# Altium schematic symbol library MCU_Texas.SchLib: 21 symbols
Pins are listed as number, name and electrical type; pins without a type are passive.

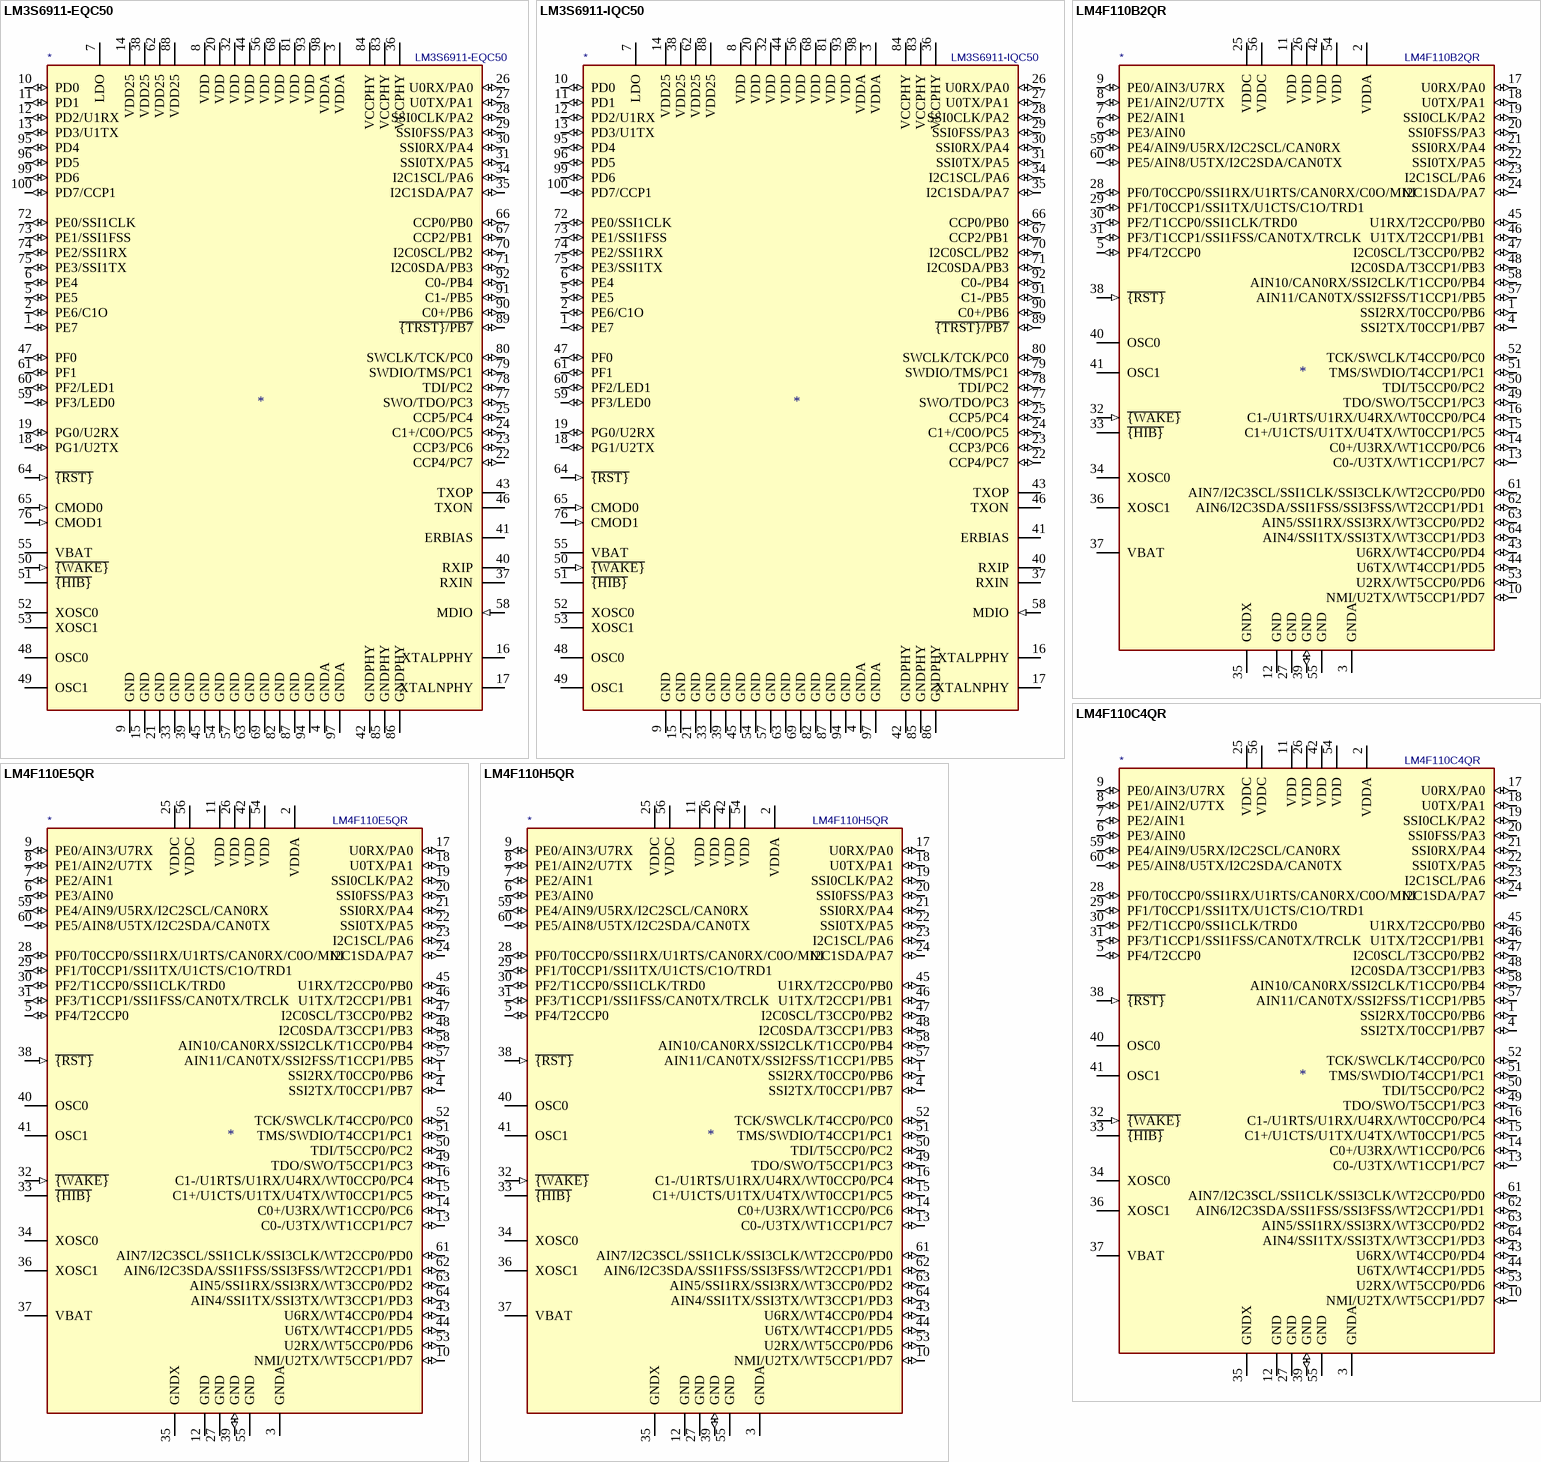
[diagram p0: symbols LM3S6911-EQC50 to LM4F110H5QR]

## LM3S6911-EQC50
designator *  value LM3S6911-EQC50
ki_keywords: MCU ARM M3 Stellaris PHY ETH NRND; ki_description: Ti Stellaris ARM-M3 MCU Ethernet PHY, LQFP100; ki_fp_filters: LQFP*14x14mm*P0.5mm*; Footprint: Package_QFP:LQFP-100_14x14mm_P0.5mm; Supplier: http://www.ti.com/lit/ds/symlink/lm3s6911.pdf
footprint LQFP-100_14x14mm_P0.5mm
pins: 1 PE7 (io), 2 PE6/C1O (io), 3 VDDA (power), 4 GNDA (power), 5 PE5 (io), 6 PE4 (io), 7 LDO, 8 VDD (power), 9 GND (power), 10 PD0 (io), 11 PD1 (io), 12 PD2/U1RX (io), 13 PD3/U1TX (io), 14 VDD25 (power), 15 GND (power), 16 XTALPPHY, 17 XTALNPHY, 18 PG1/U2TX (io), 19 PG0/U2RX (io), 20 VDD (power), 21 GND (power), 22 CCP4/PC7 (io), 23 CCP3/PC6 (io), 24 C1+/C0O/PC5 (io), 25 CCP5/PC4 (io), 26 U0RX/PA0 (io), 27 U0TX/PA1 (io), 28 SSI0CLK/PA2 (io), 29 SSI0FSS/PA3 (io), 30 SSI0RX/PA4 (io), 31 SSI0TX/PA5 (io), 32 VDD (power), 33 GND (power), 34 I2C1SCL/PA6 (io), 35 I2C1SDA/PA7 (io), 36 VCCPHY (power), 37 RXIN, 38 VDD25 (power), 39 GND (power), 40 RXIP, 41 ERBIAS, 42 GNDPHY (power), 43 TXOP, 44 VDD (power), 45 GND (power), 46 TXON, 47 PF0 (io), 48 OSC0, 49 OSC1, 50 ~{{WAKE}} (in), 51 ~{{HIB}} (oc), 52 XOSC0, 53 XOSC1, 54 GND (power), 55 VBAT, 56 VDD (power), 57 GND (power), 58 MDIO (in), 59 PF3/LED0 (io), 60 PF2/LED1 (io), 61 PF1 (io), 62 VDD25 (power), 63 GND (power), 64 ~{{RST}} (in), 65 CMOD0 (in), 66 CCP0/PB0 (io), 67 CCP2/PB1 (io), 68 VDD (power), 69 GND (power), 70 I2C0SCL/PB2 (io), 71 I2C0SDA/PB3 (io), 72 PE0/SSI1CLK (io), 73 PE1/SSI1FSS (io), 74 PE2/SSI1RX (io), 75 PE3/SSI1TX (io), 76 CMOD1 (in), 77 SWO/TDO/PC3 (io), 78 TDI/PC2 (io), 79 SWDIO/TMS/PC1 (io), 80 SWCLK/TCK/PC0 (io), 81 VDD (power), 82 GND (power), 83 VCCPHY (power), 84 VCCPHY (power), 85 GNDPHY (power), 86 GNDPHY (power), 87 GND (power), 88 VDD25 (power), 89 ~{{TRST}/PB7} (io), 90 C0+/PB6 (io), 91 C1-/PB5 (io), 92 C0-/PB4 (io), 93 VDD (power), 94 GND (power), 95 PD4 (io), 96 PD5 (io), 97 GNDA (power), 98 VDDA (power), 99 PD6 (io), 100 PD7/CCP1 (io)

## LM3S6911-IQC50
designator *  value LM3S6911-IQC50
ki_keywords: MCU ARM M3 Stellaris PHY ETH NRND; ki_description: Ti Stellaris ARM-M3 MCU Ethernet PHY, Industrial grade, LQFP100; ki_fp_filters: LQFP*14x14mm*P0.5mm*; Footprint: Package_QFP:LQFP-100_14x14mm_P0.5mm; Supplier: http://www.ti.com/lit/ds/symlink/lm3s6911.pdf
footprint LQFP-100_14x14mm_P0.5mm
pins: 1 PE7 (io), 2 PE6/C1O (io), 3 VDDA (power), 4 GNDA (power), 5 PE5 (io), 6 PE4 (io), 7 LDO, 8 VDD (power), 9 GND (power), 10 PD0 (io), 11 PD1 (io), 12 PD2/U1RX (io), 13 PD3/U1TX (io), 14 VDD25 (power), 15 GND (power), 16 XTALPPHY, 17 XTALNPHY, 18 PG1/U2TX (io), 19 PG0/U2RX (io), 20 VDD (power), 21 GND (power), 22 CCP4/PC7 (io), 23 CCP3/PC6 (io), 24 C1+/C0O/PC5 (io), 25 CCP5/PC4 (io), 26 U0RX/PA0 (io), 27 U0TX/PA1 (io), 28 SSI0CLK/PA2 (io), 29 SSI0FSS/PA3 (io), 30 SSI0RX/PA4 (io), 31 SSI0TX/PA5 (io), 32 VDD (power), 33 GND (power), 34 I2C1SCL/PA6 (io), 35 I2C1SDA/PA7 (io), 36 VCCPHY (power), 37 RXIN, 38 VDD25 (power), 39 GND (power), 40 RXIP, 41 ERBIAS, 42 GNDPHY (power), 43 TXOP, 44 VDD (power), 45 GND (power), 46 TXON, 47 PF0 (io), 48 OSC0, 49 OSC1, 50 ~{{WAKE}} (in), 51 ~{{HIB}} (oc), 52 XOSC0, 53 XOSC1, 54 GND (power), 55 VBAT, 56 VDD (power), 57 GND (power), 58 MDIO (in), 59 PF3/LED0 (io), 60 PF2/LED1 (io), 61 PF1 (io), 62 VDD25 (power), 63 GND (power), 64 ~{{RST}} (in), 65 CMOD0 (in), 66 CCP0/PB0 (io), 67 CCP2/PB1 (io), 68 VDD (power), 69 GND (power), 70 I2C0SCL/PB2 (io), 71 I2C0SDA/PB3 (io), 72 PE0/SSI1CLK (io), 73 PE1/SSI1FSS (io), 74 PE2/SSI1RX (io), 75 PE3/SSI1TX (io), 76 CMOD1 (in), 77 SWO/TDO/PC3 (io), 78 TDI/PC2 (io), 79 SWDIO/TMS/PC1 (io), 80 SWCLK/TCK/PC0 (io), 81 VDD (power), 82 GND (power), 83 VCCPHY (power), 84 VCCPHY (power), 85 GNDPHY (power), 86 GNDPHY (power), 87 GND (power), 88 VDD25 (power), 89 ~{{TRST}/PB7} (io), 90 C0+/PB6 (io), 91 C1-/PB5 (io), 92 C0-/PB4 (io), 93 VDD (power), 94 GND (power), 95 PD4 (io), 96 PD5 (io), 97 GNDA (power), 98 VDDA (power), 99 PD6 (io), 100 PD7/CCP1 (io)

## LM4F110B2QR
designator *  value LM4F110B2QR
ki_keywords: ARM Stellaris Cortex M4 MCU NRND; ki_description: Replaced by TM4C1231C3PM, LQFP64; ki_fp_filters: LQFP*10x10mm*P0.5*; Footprint: Package_QFP:LQFP-64_10x10mm_P0.5mm; Supplier: http://www.ti.com/lit/ds/symlink/tm4c1231c3pm.pdf
footprint LQFP-64_10x10mm_P0.5mm
pins: 1 SSI2RX/T0CCP0/PB6 (io), 2 VDDA (power), 3 GNDA (power), 4 SSI2TX/T0CCP1/PB7 (io), 5 PF4/T2CCP0 (io), 6 PE3/AIN0 (io), 7 PE2/AIN1 (io), 8 PE1/AIN2/U7TX (io), 9 PE0/AIN3/U7RX (io), 10 NMI/U2TX/WT5CCP1/PD7 (io), 11 VDD (power), 12 GND (power), 13 C0-/U3TX/WT1CCP1/PC7 (io), 14 C0+/U3RX/WT1CCP0/PC6 (io), 15 C1+/U1CTS/U1TX/U4TX/WT0CCP1/PC5 (io), 16 C1-/U1RTS/U1RX/U4RX/WT0CCP0/PC4 (io), 17 U0RX/PA0 (io), 18 U0TX/PA1 (io), 19 SSI0CLK/PA2 (io), 20 SSI0FSS/PA3 (io), 21 SSI0RX/PA4 (io), 22 SSI0TX/PA5 (io), 23 I2C1SCL/PA6 (io), 24 I2C1SDA/PA7 (io), 25 VDDC (power), 26 VDD (power), 27 GND (power), 28 PF0/T0CCP0/SSI1RX/U1RTS/CAN0RX/C0O/MNI (io), 29 PF1/T0CCP1/SSI1TX/U1CTS/C1O/TRD1 (io), 30 PF2/T1CCP0/SSI1CLK/TRD0 (io), 31 PF3/T1CCP1/SSI1FSS/CAN0TX/TRCLK (io), 32 ~{{WAKE}} (in), 33 ~{{HIB}} (oc), 34 XOSC0, 35 GNDX (power), 36 XOSC1, 37 VBAT, 38 ~{{RST}} (in), 39 GND (io), 40 OSC0, 41 OSC1, 42 VDD (power), 43 U6RX/WT4CCP0/PD4 (io), 44 U6TX/WT4CCP1/PD5 (io), 45 U1RX/T2CCP0/PB0 (io), 46 U1TX/T2CCP1/PB1 (io), 47 I2C0SCL/T3CCP0/PB2 (io), 48 I2C0SDA/T3CCP1/PB3 (io), 49 TDO/SWO/T5CCP1/PC3 (io), 50 TDI/T5CCP0/PC2 (io), 51 TMS/SWDIO/T4CCP1/PC1 (io), 52 TCK/SWCLK/T4CCP0/PC0 (io), 53 U2RX/WT5CCP0/PD6 (io), 54 VDD (power), 55 GND (power), 56 VDDC (power), 57 AIN11/CAN0TX/SSI2FSS/T1CCP1/PB5 (io), 58 AIN10/CAN0RX/SSI2CLK/T1CCP0/PB4 (io), 59 PE4/AIN9/U5RX/I2C2SCL/CAN0RX (io), 60 PE5/AIN8/U5TX/I2C2SDA/CAN0TX (io), 61 AIN7/I2C3SCL/SSI1CLK/SSI3CLK/WT2CCP0/PD0 (io), 62 AIN6/I2C3SDA/SSI1FSS/SSI3FSS/WT2CCP1/PD1 (io), 63 AIN5/SSI1RX/SSI3RX/WT3CCP0/PD2 (io), 64 AIN4/SSI1TX/SSI3TX/WT3CCP1/PD3 (io)

## LM4F110C4QR
designator *  value LM4F110C4QR
ki_keywords: ARM Stellaris Cortex M4 MCU NRND; ki_description: Replaced by TM4C1231D5PM, LQFP64; ki_fp_filters: LQFP*10x10mm*P0.5*; Footprint: Package_QFP:LQFP-64_10x10mm_P0.5mm; Supplier: http://www.ti.com/lit/ds/symlink/tm4c1231d5pm.pdf
footprint LQFP-64_10x10mm_P0.5mm
pins: 1 SSI2RX/T0CCP0/PB6 (io), 2 VDDA (power), 3 GNDA (power), 4 SSI2TX/T0CCP1/PB7 (io), 5 PF4/T2CCP0 (io), 6 PE3/AIN0 (io), 7 PE2/AIN1 (io), 8 PE1/AIN2/U7TX (io), 9 PE0/AIN3/U7RX (io), 10 NMI/U2TX/WT5CCP1/PD7 (io), 11 VDD (power), 12 GND (power), 13 C0-/U3TX/WT1CCP1/PC7 (io), 14 C0+/U3RX/WT1CCP0/PC6 (io), 15 C1+/U1CTS/U1TX/U4TX/WT0CCP1/PC5 (io), 16 C1-/U1RTS/U1RX/U4RX/WT0CCP0/PC4 (io), 17 U0RX/PA0 (io), 18 U0TX/PA1 (io), 19 SSI0CLK/PA2 (io), 20 SSI0FSS/PA3 (io), 21 SSI0RX/PA4 (io), 22 SSI0TX/PA5 (io), 23 I2C1SCL/PA6 (io), 24 I2C1SDA/PA7 (io), 25 VDDC (power), 26 VDD (power), 27 GND (power), 28 PF0/T0CCP0/SSI1RX/U1RTS/CAN0RX/C0O/MNI (io), 29 PF1/T0CCP1/SSI1TX/U1CTS/C1O/TRD1 (io), 30 PF2/T1CCP0/SSI1CLK/TRD0 (io), 31 PF3/T1CCP1/SSI1FSS/CAN0TX/TRCLK (io), 32 ~{{WAKE}} (in), 33 ~{{HIB}} (oc), 34 XOSC0, 35 GNDX (power), 36 XOSC1, 37 VBAT, 38 ~{{RST}} (in), 39 GND (io), 40 OSC0, 41 OSC1, 42 VDD (power), 43 U6RX/WT4CCP0/PD4 (io), 44 U6TX/WT4CCP1/PD5 (io), 45 U1RX/T2CCP0/PB0 (io), 46 U1TX/T2CCP1/PB1 (io), 47 I2C0SCL/T3CCP0/PB2 (io), 48 I2C0SDA/T3CCP1/PB3 (io), 49 TDO/SWO/T5CCP1/PC3 (io), 50 TDI/T5CCP0/PC2 (io), 51 TMS/SWDIO/T4CCP1/PC1 (io), 52 TCK/SWCLK/T4CCP0/PC0 (io), 53 U2RX/WT5CCP0/PD6 (io), 54 VDD (power), 55 GND (power), 56 VDDC (power), 57 AIN11/CAN0TX/SSI2FSS/T1CCP1/PB5 (io), 58 AIN10/CAN0RX/SSI2CLK/T1CCP0/PB4 (io), 59 PE4/AIN9/U5RX/I2C2SCL/CAN0RX (io), 60 PE5/AIN8/U5TX/I2C2SDA/CAN0TX (io), 61 AIN7/I2C3SCL/SSI1CLK/SSI3CLK/WT2CCP0/PD0 (io), 62 AIN6/I2C3SDA/SSI1FSS/SSI3FSS/WT2CCP1/PD1 (io), 63 AIN5/SSI1RX/SSI3RX/WT3CCP0/PD2 (io), 64 AIN4/SSI1TX/SSI3TX/WT3CCP1/PD3 (io)

## LM4F110E5QR
designator *  value LM4F110E5QR
ki_keywords: ARM Stellaris Cortex M4 MCU NRND; ki_description: Replaced by TM4C1231E6PM, LQFP64; ki_fp_filters: LQFP*10x10mm*P0.5*; Footprint: Package_QFP:LQFP-64_10x10mm_P0.5mm; Supplier: http://www.ti.com/lit/ds/symlink/tm4c1231e6pm.pdf
footprint LQFP-64_10x10mm_P0.5mm
pins: 1 SSI2RX/T0CCP0/PB6 (io), 2 VDDA (power), 3 GNDA (power), 4 SSI2TX/T0CCP1/PB7 (io), 5 PF4/T2CCP0 (io), 6 PE3/AIN0 (io), 7 PE2/AIN1 (io), 8 PE1/AIN2/U7TX (io), 9 PE0/AIN3/U7RX (io), 10 NMI/U2TX/WT5CCP1/PD7 (io), 11 VDD (power), 12 GND (power), 13 C0-/U3TX/WT1CCP1/PC7 (io), 14 C0+/U3RX/WT1CCP0/PC6 (io), 15 C1+/U1CTS/U1TX/U4TX/WT0CCP1/PC5 (io), 16 C1-/U1RTS/U1RX/U4RX/WT0CCP0/PC4 (io), 17 U0RX/PA0 (io), 18 U0TX/PA1 (io), 19 SSI0CLK/PA2 (io), 20 SSI0FSS/PA3 (io), 21 SSI0RX/PA4 (io), 22 SSI0TX/PA5 (io), 23 I2C1SCL/PA6 (io), 24 I2C1SDA/PA7 (io), 25 VDDC (power), 26 VDD (power), 27 GND (power), 28 PF0/T0CCP0/SSI1RX/U1RTS/CAN0RX/C0O/MNI (io), 29 PF1/T0CCP1/SSI1TX/U1CTS/C1O/TRD1 (io), 30 PF2/T1CCP0/SSI1CLK/TRD0 (io), 31 PF3/T1CCP1/SSI1FSS/CAN0TX/TRCLK (io), 32 ~{{WAKE}} (in), 33 ~{{HIB}} (oc), 34 XOSC0, 35 GNDX (power), 36 XOSC1, 37 VBAT, 38 ~{{RST}} (in), 39 GND (io), 40 OSC0, 41 OSC1, 42 VDD (power), 43 U6RX/WT4CCP0/PD4 (io), 44 U6TX/WT4CCP1/PD5 (io), 45 U1RX/T2CCP0/PB0 (io), 46 U1TX/T2CCP1/PB1 (io), 47 I2C0SCL/T3CCP0/PB2 (io), 48 I2C0SDA/T3CCP1/PB3 (io), 49 TDO/SWO/T5CCP1/PC3 (io), 50 TDI/T5CCP0/PC2 (io), 51 TMS/SWDIO/T4CCP1/PC1 (io), 52 TCK/SWCLK/T4CCP0/PC0 (io), 53 U2RX/WT5CCP0/PD6 (io), 54 VDD (power), 55 GND (power), 56 VDDC (power), 57 AIN11/CAN0TX/SSI2FSS/T1CCP1/PB5 (io), 58 AIN10/CAN0RX/SSI2CLK/T1CCP0/PB4 (io), 59 PE4/AIN9/U5RX/I2C2SCL/CAN0RX (io), 60 PE5/AIN8/U5TX/I2C2SDA/CAN0TX (io), 61 AIN7/I2C3SCL/SSI1CLK/SSI3CLK/WT2CCP0/PD0 (io), 62 AIN6/I2C3SDA/SSI1FSS/SSI3FSS/WT2CCP1/PD1 (io), 63 AIN5/SSI1RX/SSI3RX/WT3CCP0/PD2 (io), 64 AIN4/SSI1TX/SSI3TX/WT3CCP1/PD3 (io)

## LM4F110H5QR
designator *  value LM4F110H5QR
ki_keywords: ARM Stellaris Cortex M4 MCU NRND; ki_description: Replaced by TM4C1231H6PM, LQFP64; ki_fp_filters: LQFP*10x10mm*P0.5*; Footprint: Package_QFP:LQFP-64_10x10mm_P0.5mm; Supplier: http://www.ti.com/lit/ds/symlink/tm4c1231h6pm.pdf
footprint LQFP-64_10x10mm_P0.5mm
pins: 1 SSI2RX/T0CCP0/PB6 (io), 2 VDDA (power), 3 GNDA (power), 4 SSI2TX/T0CCP1/PB7 (io), 5 PF4/T2CCP0 (io), 6 PE3/AIN0 (io), 7 PE2/AIN1 (io), 8 PE1/AIN2/U7TX (io), 9 PE0/AIN3/U7RX (io), 10 NMI/U2TX/WT5CCP1/PD7 (io), 11 VDD (power), 12 GND (power), 13 C0-/U3TX/WT1CCP1/PC7 (io), 14 C0+/U3RX/WT1CCP0/PC6 (io), 15 C1+/U1CTS/U1TX/U4TX/WT0CCP1/PC5 (io), 16 C1-/U1RTS/U1RX/U4RX/WT0CCP0/PC4 (io), 17 U0RX/PA0 (io), 18 U0TX/PA1 (io), 19 SSI0CLK/PA2 (io), 20 SSI0FSS/PA3 (io), 21 SSI0RX/PA4 (io), 22 SSI0TX/PA5 (io), 23 I2C1SCL/PA6 (io), 24 I2C1SDA/PA7 (io), 25 VDDC (power), 26 VDD (power), 27 GND (power), 28 PF0/T0CCP0/SSI1RX/U1RTS/CAN0RX/C0O/MNI (io), 29 PF1/T0CCP1/SSI1TX/U1CTS/C1O/TRD1 (io), 30 PF2/T1CCP0/SSI1CLK/TRD0 (io), 31 PF3/T1CCP1/SSI1FSS/CAN0TX/TRCLK (io), 32 ~{{WAKE}} (in), 33 ~{{HIB}} (oc), 34 XOSC0, 35 GNDX (power), 36 XOSC1, 37 VBAT, 38 ~{{RST}} (in), 39 GND (io), 40 OSC0, 41 OSC1, 42 VDD (power), 43 U6RX/WT4CCP0/PD4 (io), 44 U6TX/WT4CCP1/PD5 (io), 45 U1RX/T2CCP0/PB0 (io), 46 U1TX/T2CCP1/PB1 (io), 47 I2C0SCL/T3CCP0/PB2 (io), 48 I2C0SDA/T3CCP1/PB3 (io), 49 TDO/SWO/T5CCP1/PC3 (io), 50 TDI/T5CCP0/PC2 (io), 51 TMS/SWDIO/T4CCP1/PC1 (io), 52 TCK/SWCLK/T4CCP0/PC0 (io), 53 U2RX/WT5CCP0/PD6 (io), 54 VDD (power), 55 GND (power), 56 VDDC (power), 57 AIN11/CAN0TX/SSI2FSS/T1CCP1/PB5 (io), 58 AIN10/CAN0RX/SSI2CLK/T1CCP0/PB4 (io), 59 PE4/AIN9/U5RX/I2C2SCL/CAN0RX (io), 60 PE5/AIN8/U5TX/I2C2SDA/CAN0TX (io), 61 AIN7/I2C3SCL/SSI1CLK/SSI3CLK/WT2CCP0/PD0 (io), 62 AIN6/I2C3SDA/SSI1FSS/SSI3FSS/WT2CCP1/PD1 (io), 63 AIN5/SSI1RX/SSI3RX/WT3CCP0/PD2 (io), 64 AIN4/SSI1TX/SSI3TX/WT3CCP1/PD3 (io)

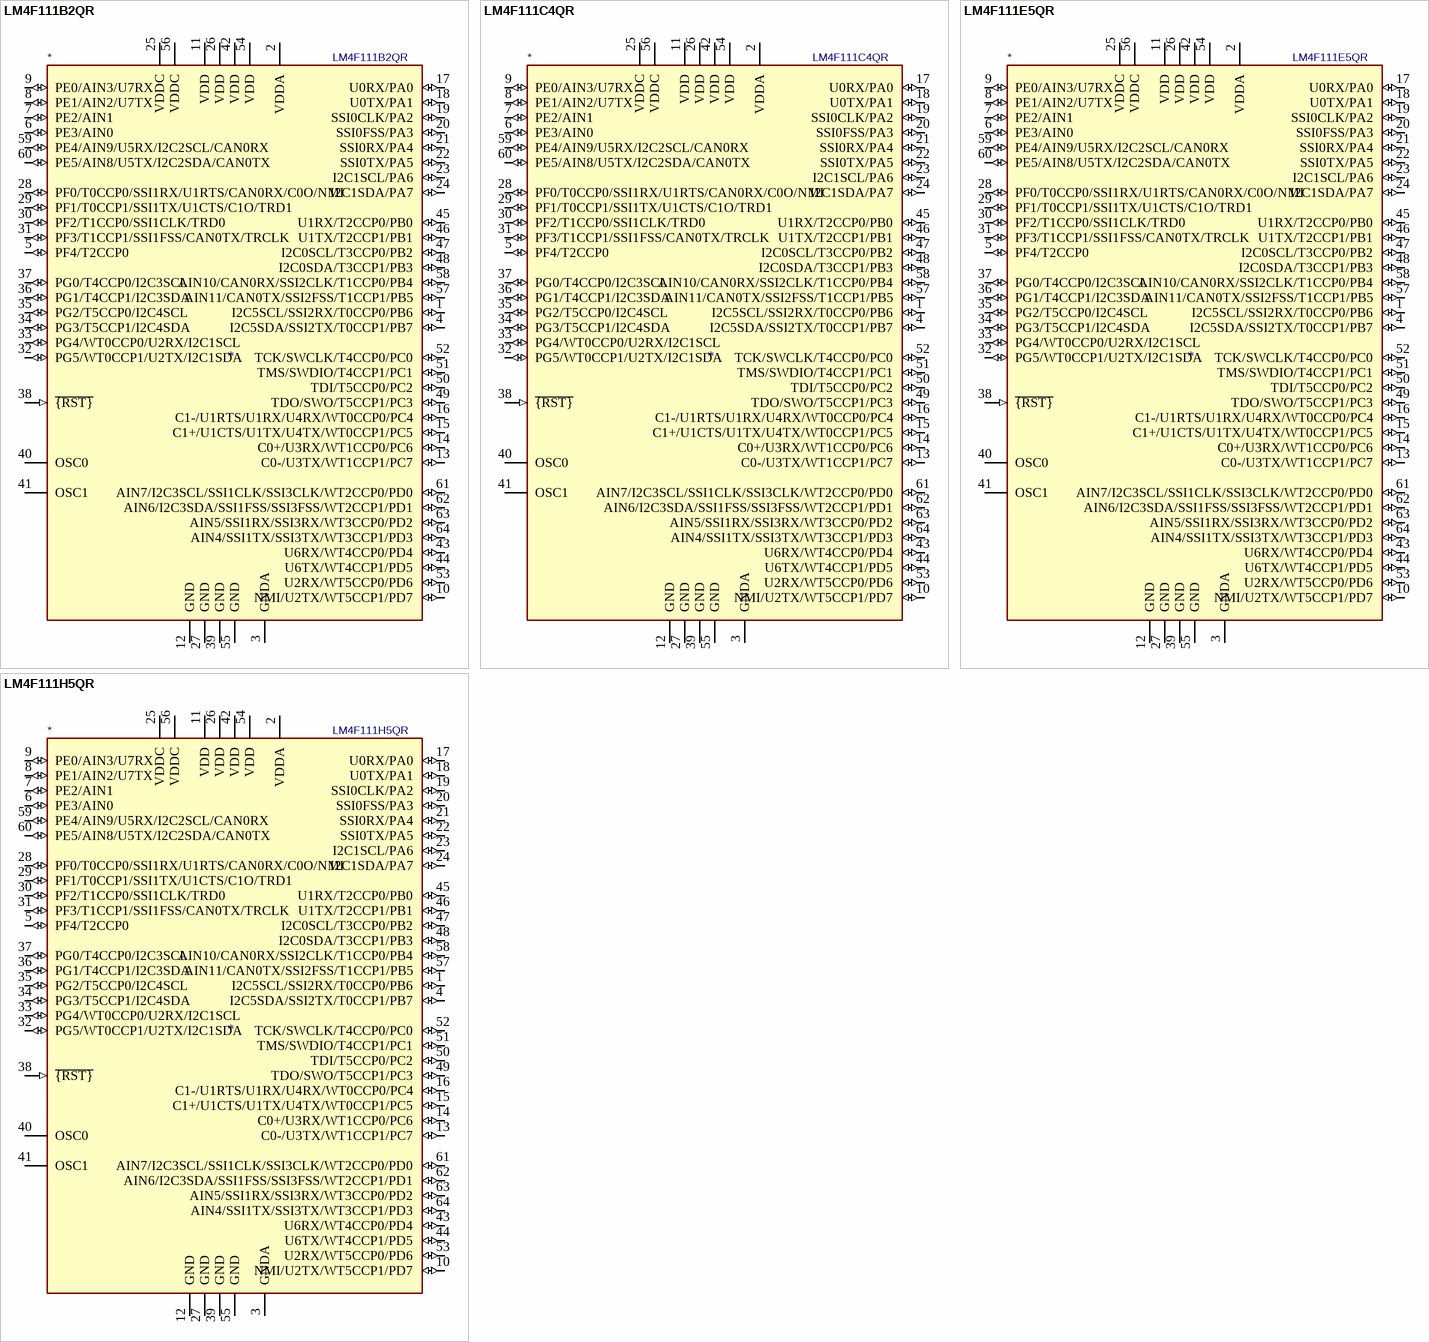
[diagram p1: symbols LM4F111B2QR to LM4F111H5QR]

## LM4F111B2QR
designator *  value LM4F111B2QR
ki_keywords: ARM Stellaris Cortex M4 MCU NRND; ki_description: Replaced by TM4C1230C3PM, LQFP64; ki_fp_filters: LQFP*10x10mm*P0.5mm*; Footprint: Package_QFP:LQFP-64_10x10mm_P0.5mm; Supplier: http://www.ti.com/lit/ds/symlink/tm4c1230c3pm.pdf
footprint LQFP-64_10x10mm_P0.5mm
pins: 1 I2C5SCL/SSI2RX/T0CCP0/PB6 (io), 2 VDDA (power), 3 GNDA (power), 4 I2C5SDA/SSI2TX/T0CCP1/PB7 (io), 5 PF4/T2CCP0 (io), 6 PE3/AIN0 (io), 7 PE2/AIN1 (io), 8 PE1/AIN2/U7TX (io), 9 PE0/AIN3/U7RX (io), 10 NMI/U2TX/WT5CCP1/PD7 (io), 11 VDD (power), 12 GND (power), 13 C0-/U3TX/WT1CCP1/PC7 (io), 14 C0+/U3RX/WT1CCP0/PC6 (io), 15 C1+/U1CTS/U1TX/U4TX/WT0CCP1/PC5 (io), 16 C1-/U1RTS/U1RX/U4RX/WT0CCP0/PC4 (io), 17 U0RX/PA0 (io), 18 U0TX/PA1 (io), 19 SSI0CLK/PA2 (io), 20 SSI0FSS/PA3 (io), 21 SSI0RX/PA4 (io), 22 SSI0TX/PA5 (io), 23 I2C1SCL/PA6 (io), 24 I2C1SDA/PA7 (io), 25 VDDC (power), 26 VDD (power), 27 GND (power), 28 PF0/T0CCP0/SSI1RX/U1RTS/CAN0RX/C0O/NMI (io), 29 PF1/T0CCP1/SSI1TX/U1CTS/C1O/TRD1 (io), 30 PF2/T1CCP0/SSI1CLK/TRD0 (io), 31 PF3/T1CCP1/SSI1FSS/CAN0TX/TRCLK (io), 32 PG5/WT0CCP1/U2TX/I2C1SDA (io), 33 PG4/WT0CCP0/U2RX/I2C1SCL (io), 34 PG3/T5CCP1/I2C4SDA (io), 35 PG2/T5CCP0/I2C4SCL (io), 36 PG1/T4CCP1/I2C3SDA (io), 37 PG0/T4CCP0/I2C3SCL (io), 38 ~{{RST}} (in), 39 GND (power), 40 OSC0, 41 OSC1, 42 VDD (power), 43 U6RX/WT4CCP0/PD4 (io), 44 U6TX/WT4CCP1/PD5 (io), 45 U1RX/T2CCP0/PB0 (io), 46 U1TX/T2CCP1/PB1 (io), 47 I2C0SCL/T3CCP0/PB2 (io), 48 I2C0SDA/T3CCP1/PB3 (io), 49 TDO/SWO/T5CCP1/PC3 (io), 50 TDI/T5CCP0/PC2 (io), 51 TMS/SWDIO/T4CCP1/PC1 (io), 52 TCK/SWCLK/T4CCP0/PC0 (io), 53 U2RX/WT5CCP0/PD6 (io), 54 VDD (power), 55 GND (power), 56 VDDC (power), 57 AIN11/CAN0TX/SSI2FSS/T1CCP1/PB5 (io), 58 AIN10/CAN0RX/SSI2CLK/T1CCP0/PB4 (io), 59 PE4/AIN9/U5RX/I2C2SCL/CAN0RX (io), 60 PE5/AIN8/U5TX/I2C2SDA/CAN0TX (io), 61 AIN7/I2C3SCL/SSI1CLK/SSI3CLK/WT2CCP0/PD0 (io), 62 AIN6/I2C3SDA/SSI1FSS/SSI3FSS/WT2CCP1/PD1 (io), 63 AIN5/SSI1RX/SSI3RX/WT3CCP0/PD2 (io), 64 AIN4/SSI1TX/SSI3TX/WT3CCP1/PD3 (io)

## LM4F111C4QR
designator *  value LM4F111C4QR
ki_keywords: ARM Stellaris Cortex M4 MCU NRND; ki_description: Replaced by TM4C1230D5PM, LQFP64; ki_fp_filters: LQFP*10x10mm*P0.5mm*; Footprint: Package_QFP:LQFP-64_10x10mm_P0.5mm; Supplier: http://www.ti.com/lit/ds/symlink/tm4c1230d5pm.pdf
footprint LQFP-64_10x10mm_P0.5mm
pins: 1 I2C5SCL/SSI2RX/T0CCP0/PB6 (io), 2 VDDA (power), 3 GNDA (power), 4 I2C5SDA/SSI2TX/T0CCP1/PB7 (io), 5 PF4/T2CCP0 (io), 6 PE3/AIN0 (io), 7 PE2/AIN1 (io), 8 PE1/AIN2/U7TX (io), 9 PE0/AIN3/U7RX (io), 10 NMI/U2TX/WT5CCP1/PD7 (io), 11 VDD (power), 12 GND (power), 13 C0-/U3TX/WT1CCP1/PC7 (io), 14 C0+/U3RX/WT1CCP0/PC6 (io), 15 C1+/U1CTS/U1TX/U4TX/WT0CCP1/PC5 (io), 16 C1-/U1RTS/U1RX/U4RX/WT0CCP0/PC4 (io), 17 U0RX/PA0 (io), 18 U0TX/PA1 (io), 19 SSI0CLK/PA2 (io), 20 SSI0FSS/PA3 (io), 21 SSI0RX/PA4 (io), 22 SSI0TX/PA5 (io), 23 I2C1SCL/PA6 (io), 24 I2C1SDA/PA7 (io), 25 VDDC (power), 26 VDD (power), 27 GND (power), 28 PF0/T0CCP0/SSI1RX/U1RTS/CAN0RX/C0O/NMI (io), 29 PF1/T0CCP1/SSI1TX/U1CTS/C1O/TRD1 (io), 30 PF2/T1CCP0/SSI1CLK/TRD0 (io), 31 PF3/T1CCP1/SSI1FSS/CAN0TX/TRCLK (io), 32 PG5/WT0CCP1/U2TX/I2C1SDA (io), 33 PG4/WT0CCP0/U2RX/I2C1SCL (io), 34 PG3/T5CCP1/I2C4SDA (io), 35 PG2/T5CCP0/I2C4SCL (io), 36 PG1/T4CCP1/I2C3SDA (io), 37 PG0/T4CCP0/I2C3SCL (io), 38 ~{{RST}} (in), 39 GND (power), 40 OSC0, 41 OSC1, 42 VDD (power), 43 U6RX/WT4CCP0/PD4 (io), 44 U6TX/WT4CCP1/PD5 (io), 45 U1RX/T2CCP0/PB0 (io), 46 U1TX/T2CCP1/PB1 (io), 47 I2C0SCL/T3CCP0/PB2 (io), 48 I2C0SDA/T3CCP1/PB3 (io), 49 TDO/SWO/T5CCP1/PC3 (io), 50 TDI/T5CCP0/PC2 (io), 51 TMS/SWDIO/T4CCP1/PC1 (io), 52 TCK/SWCLK/T4CCP0/PC0 (io), 53 U2RX/WT5CCP0/PD6 (io), 54 VDD (power), 55 GND (power), 56 VDDC (power), 57 AIN11/CAN0TX/SSI2FSS/T1CCP1/PB5 (io), 58 AIN10/CAN0RX/SSI2CLK/T1CCP0/PB4 (io), 59 PE4/AIN9/U5RX/I2C2SCL/CAN0RX (io), 60 PE5/AIN8/U5TX/I2C2SDA/CAN0TX (io), 61 AIN7/I2C3SCL/SSI1CLK/SSI3CLK/WT2CCP0/PD0 (io), 62 AIN6/I2C3SDA/SSI1FSS/SSI3FSS/WT2CCP1/PD1 (io), 63 AIN5/SSI1RX/SSI3RX/WT3CCP0/PD2 (io), 64 AIN4/SSI1TX/SSI3TX/WT3CCP1/PD3 (io)

## LM4F111E5QR
designator *  value LM4F111E5QR
ki_keywords: ARM Stellaris Cortex M4 MCU NRND; ki_description: Replaced by TM4C1230E6PM, LQFP64; ki_fp_filters: LQFP*10x10mm*P0.5mm*; Footprint: Package_QFP:LQFP-64_10x10mm_P0.5mm; Supplier: http://www.ti.com/lit/ds/symlink/tm4c1230c3pm.pdf
footprint LQFP-64_10x10mm_P0.5mm
pins: 1 I2C5SCL/SSI2RX/T0CCP0/PB6 (io), 2 VDDA (power), 3 GNDA (power), 4 I2C5SDA/SSI2TX/T0CCP1/PB7 (io), 5 PF4/T2CCP0 (io), 6 PE3/AIN0 (io), 7 PE2/AIN1 (io), 8 PE1/AIN2/U7TX (io), 9 PE0/AIN3/U7RX (io), 10 NMI/U2TX/WT5CCP1/PD7 (io), 11 VDD (power), 12 GND (power), 13 C0-/U3TX/WT1CCP1/PC7 (io), 14 C0+/U3RX/WT1CCP0/PC6 (io), 15 C1+/U1CTS/U1TX/U4TX/WT0CCP1/PC5 (io), 16 C1-/U1RTS/U1RX/U4RX/WT0CCP0/PC4 (io), 17 U0RX/PA0 (io), 18 U0TX/PA1 (io), 19 SSI0CLK/PA2 (io), 20 SSI0FSS/PA3 (io), 21 SSI0RX/PA4 (io), 22 SSI0TX/PA5 (io), 23 I2C1SCL/PA6 (io), 24 I2C1SDA/PA7 (io), 25 VDDC (power), 26 VDD (power), 27 GND (power), 28 PF0/T0CCP0/SSI1RX/U1RTS/CAN0RX/C0O/NMI (io), 29 PF1/T0CCP1/SSI1TX/U1CTS/C1O/TRD1 (io), 30 PF2/T1CCP0/SSI1CLK/TRD0 (io), 31 PF3/T1CCP1/SSI1FSS/CAN0TX/TRCLK (io), 32 PG5/WT0CCP1/U2TX/I2C1SDA (io), 33 PG4/WT0CCP0/U2RX/I2C1SCL (io), 34 PG3/T5CCP1/I2C4SDA (io), 35 PG2/T5CCP0/I2C4SCL (io), 36 PG1/T4CCP1/I2C3SDA (io), 37 PG0/T4CCP0/I2C3SCL (io), 38 ~{{RST}} (in), 39 GND (power), 40 OSC0, 41 OSC1, 42 VDD (power), 43 U6RX/WT4CCP0/PD4 (io), 44 U6TX/WT4CCP1/PD5 (io), 45 U1RX/T2CCP0/PB0 (io), 46 U1TX/T2CCP1/PB1 (io), 47 I2C0SCL/T3CCP0/PB2 (io), 48 I2C0SDA/T3CCP1/PB3 (io), 49 TDO/SWO/T5CCP1/PC3 (io), 50 TDI/T5CCP0/PC2 (io), 51 TMS/SWDIO/T4CCP1/PC1 (io), 52 TCK/SWCLK/T4CCP0/PC0 (io), 53 U2RX/WT5CCP0/PD6 (io), 54 VDD (power), 55 GND (power), 56 VDDC (power), 57 AIN11/CAN0TX/SSI2FSS/T1CCP1/PB5 (io), 58 AIN10/CAN0RX/SSI2CLK/T1CCP0/PB4 (io), 59 PE4/AIN9/U5RX/I2C2SCL/CAN0RX (io), 60 PE5/AIN8/U5TX/I2C2SDA/CAN0TX (io), 61 AIN7/I2C3SCL/SSI1CLK/SSI3CLK/WT2CCP0/PD0 (io), 62 AIN6/I2C3SDA/SSI1FSS/SSI3FSS/WT2CCP1/PD1 (io), 63 AIN5/SSI1RX/SSI3RX/WT3CCP0/PD2 (io), 64 AIN4/SSI1TX/SSI3TX/WT3CCP1/PD3 (io)

## LM4F111H5QR
designator *  value LM4F111H5QR
ki_keywords: ARM Stellaris Cortex M4 MCU NRND; ki_description: Replaced by TM4C1230H6PM, LQFP64; ki_fp_filters: LQFP*10x10mm*P0.5mm*; Footprint: Package_QFP:LQFP-64_10x10mm_P0.5mm; Supplier: http://www.ti.com/lit/ds/symlink/tm4c1230h6pm.pdf
footprint LQFP-64_10x10mm_P0.5mm
pins: 1 I2C5SCL/SSI2RX/T0CCP0/PB6 (io), 2 VDDA (power), 3 GNDA (power), 4 I2C5SDA/SSI2TX/T0CCP1/PB7 (io), 5 PF4/T2CCP0 (io), 6 PE3/AIN0 (io), 7 PE2/AIN1 (io), 8 PE1/AIN2/U7TX (io), 9 PE0/AIN3/U7RX (io), 10 NMI/U2TX/WT5CCP1/PD7 (io), 11 VDD (power), 12 GND (power), 13 C0-/U3TX/WT1CCP1/PC7 (io), 14 C0+/U3RX/WT1CCP0/PC6 (io), 15 C1+/U1CTS/U1TX/U4TX/WT0CCP1/PC5 (io), 16 C1-/U1RTS/U1RX/U4RX/WT0CCP0/PC4 (io), 17 U0RX/PA0 (io), 18 U0TX/PA1 (io), 19 SSI0CLK/PA2 (io), 20 SSI0FSS/PA3 (io), 21 SSI0RX/PA4 (io), 22 SSI0TX/PA5 (io), 23 I2C1SCL/PA6 (io), 24 I2C1SDA/PA7 (io), 25 VDDC (power), 26 VDD (power), 27 GND (power), 28 PF0/T0CCP0/SSI1RX/U1RTS/CAN0RX/C0O/NMI (io), 29 PF1/T0CCP1/SSI1TX/U1CTS/C1O/TRD1 (io), 30 PF2/T1CCP0/SSI1CLK/TRD0 (io), 31 PF3/T1CCP1/SSI1FSS/CAN0TX/TRCLK (io), 32 PG5/WT0CCP1/U2TX/I2C1SDA (io), 33 PG4/WT0CCP0/U2RX/I2C1SCL (io), 34 PG3/T5CCP1/I2C4SDA (io), 35 PG2/T5CCP0/I2C4SCL (io), 36 PG1/T4CCP1/I2C3SDA (io), 37 PG0/T4CCP0/I2C3SCL (io), 38 ~{{RST}} (in), 39 GND (power), 40 OSC0, 41 OSC1, 42 VDD (power), 43 U6RX/WT4CCP0/PD4 (io), 44 U6TX/WT4CCP1/PD5 (io), 45 U1RX/T2CCP0/PB0 (io), 46 U1TX/T2CCP1/PB1 (io), 47 I2C0SCL/T3CCP0/PB2 (io), 48 I2C0SDA/T3CCP1/PB3 (io), 49 TDO/SWO/T5CCP1/PC3 (io), 50 TDI/T5CCP0/PC2 (io), 51 TMS/SWDIO/T4CCP1/PC1 (io), 52 TCK/SWCLK/T4CCP0/PC0 (io), 53 U2RX/WT5CCP0/PD6 (io), 54 VDD (power), 55 GND (power), 56 VDDC (power), 57 AIN11/CAN0TX/SSI2FSS/T1CCP1/PB5 (io), 58 AIN10/CAN0RX/SSI2CLK/T1CCP0/PB4 (io), 59 PE4/AIN9/U5RX/I2C2SCL/CAN0RX (io), 60 PE5/AIN8/U5TX/I2C2SDA/CAN0TX (io), 61 AIN7/I2C3SCL/SSI1CLK/SSI3CLK/WT2CCP0/PD0 (io), 62 AIN6/I2C3SDA/SSI1FSS/SSI3FSS/WT2CCP1/PD1 (io), 63 AIN5/SSI1RX/SSI3RX/WT3CCP0/PD2 (io), 64 AIN4/SSI1TX/SSI3TX/WT3CCP1/PD3 (io)

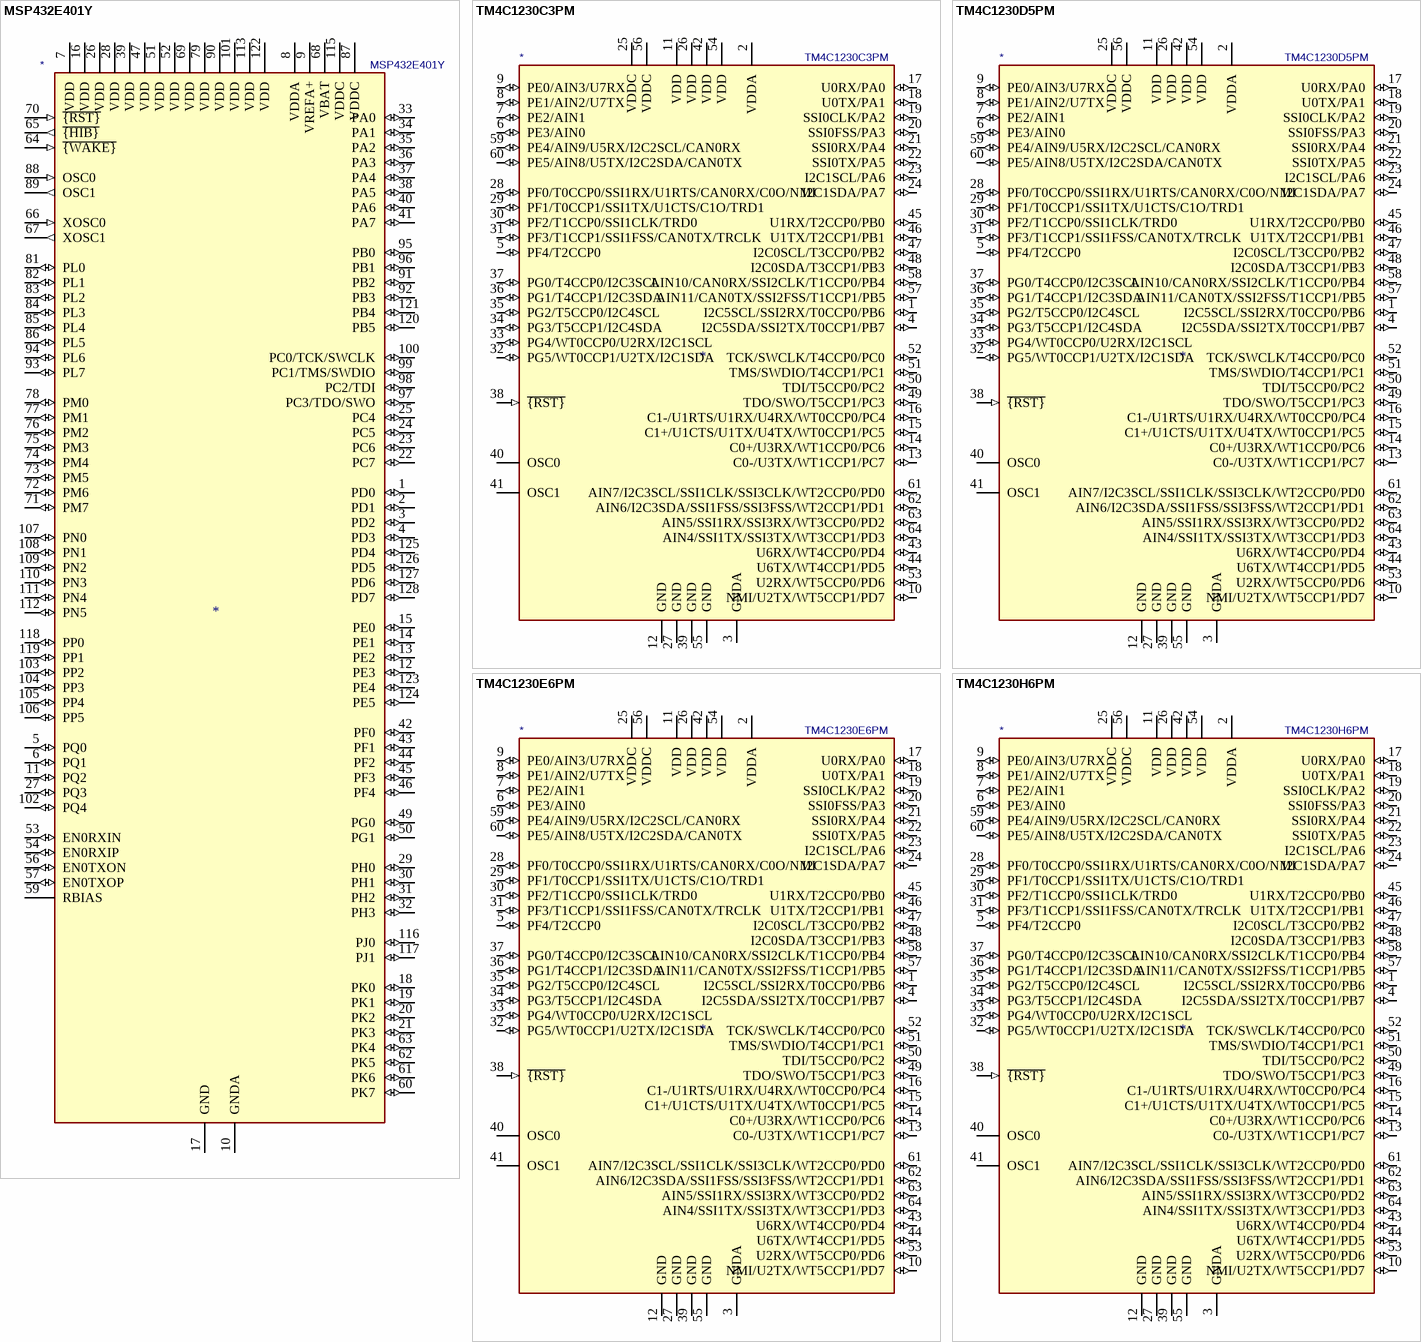
[diagram p2: symbols MSP432E401Y to TM4C1230H6PM]

## MSP432E401Y
designator *  value MSP432E401Y
ki_keywords: ARM Cortex-M4F MSP432 MSP432E4 MSP432E401; ki_description: ARM Cortex-M4F MCU, 1024KB flash, 256KB RAM, 6KB EEPROM, 120MHz, 3.0-3.6V, TQFP-128; ki_fp_filters: LQFP*14x14mm*P0.4mm*; Footprint: Package_QFP:LQFP-128_14x14mm_P0.4mm; Supplier: http://www.ti.com/lit/ds/symlink/msp432e401y.pdf
footprint LQFP-128_14x14mm_P0.4mm
pins: 1 PD0 (io), 2 PD1 (io), 3 PD2 (io), 4 PD3 (io), 5 PQ0 (io), 6 PQ1 (io), 7 VDD (power), 8 VDDA (power), 9 VREFA+ (power), 10 GNDA (power), 11 PQ2 (io), 12 PE3 (io), 13 PE2 (io), 14 PE1 (io), 15 PE0 (io), 16 VDD (power), 17 GND (power), 18 PK0 (io), 19 PK1 (io), 20 PK2 (io), 21 PK3 (io), 22 PC7 (io), 23 PC6 (io), 24 PC5 (io), 25 PC4 (io), 26 VDD (power), 27 PQ3 (io), 28 VDD (power), 29 PH0 (io), 30 PH1 (io), 31 PH2 (io), 32 PH3 (io), 33 PA0 (io), 34 PA1 (io), 35 PA2 (io), 36 PA3 (io), 37 PA4 (io), 38 PA5 (io), 39 VDD (power), 40 PA6 (io), 41 PA7 (io), 42 PF0 (io), 43 PF1 (io), 44 PF2 (io), 45 PF3 (io), 46 PF4 (io), 47 VDD (power), 48 GND hidden, 49 PG0 (io), 50 PG1 (io), 51 VDD (power), 52 VDD (power), 53 EN0RXIN (io), 54 EN0RXIP (io), 55 GND hidden, 56 EN0TXON (io), 57 EN0TXOP (io), 58 GND hidden, 59 RBIAS, 60 PK7 (io), 61 PK6 (io), 62 PK5 (io), 63 PK4 (io), 64 ~{{WAKE}} (in), 65 ~{{HIB}} (out), 66 XOSC0 (in), 67 XOSC1 (out), 68 VBAT (power), 69 VDD (power), 70 ~{{RST}} (in), 71 PM7 (io), 72 PM6 (io), 73 PM5 (io), 74 PM4 (io), 75 PM3 (io), 76 PM2 (io), 77 PM1 (io), 78 PM0 (io), 79 VDD (power), 80 GND hidden, 81 PL0 (io), 82 PL1 (io), 83 PL2 (io), 84 PL3 (io), 85 PL4 (io), 86 PL5 (io), 87 VDDC (power), 88 OSC0 (in), 89 OSC1 (out), 90 VDD (power), 91 PB2 (io), 92 PB3 (io), 93 PL7 (io), 94 PL6 (io), 95 PB0 (io), 96 PB1 (io), 97 PC3/TDO/SWO (io), 98 PC2/TDI (io), 99 PC1/TMS/SWDIO (io), 100 PC0/TCK/SWCLK (io), 101 VDD (power), 102 PQ4 (io), 103 PP2 (io), 104 PP3 (io), 105 PP4 (io), 106 PP5 (io), 107 PN0 (io), 108 PN1 (io), 109 PN2 (io), 110 PN3 (io), 111 PN4 (io), 112 PN5 (io), 113 VDD (power), 114 GND hidden, 115 VDDC (power), 116 PJ0 (io), 117 PJ1 (io), 118 PP0 (io), 119 PP1 (io), 120 PB5 (io), 121 PB4 (io), 122 VDD (power), 123 PE4 (io), 124 PE5 (io), 125 PD4 (io), 126 PD5 (io), 127 PD6 (io), 128 PD7 (io)

## TM4C1230C3PM
designator *  value TM4C1230C3PM
ki_keywords: ARM Tiva Cortex M4 MCU; ki_description: Tiva ARM 32bit CortexM4 Microcotroller, 80MHz, 32kB Flash, 12kB SRAM, 2k EEPROM, LQFP64; ki_fp_filters: LQFP*10x10mm*P0.5mm*; Footprint: Package_QFP:LQFP-64_10x10mm_P0.5mm; Supplier: http://www.ti.com/lit/ds/symlink/tm4c1230c3pm.pdf
footprint LQFP-64_10x10mm_P0.5mm
pins: 1 I2C5SCL/SSI2RX/T0CCP0/PB6 (io), 2 VDDA (power), 3 GNDA (power), 4 I2C5SDA/SSI2TX/T0CCP1/PB7 (io), 5 PF4/T2CCP0 (io), 6 PE3/AIN0 (io), 7 PE2/AIN1 (io), 8 PE1/AIN2/U7TX (io), 9 PE0/AIN3/U7RX (io), 10 NMI/U2TX/WT5CCP1/PD7 (io), 11 VDD (power), 12 GND (power), 13 C0-/U3TX/WT1CCP1/PC7 (io), 14 C0+/U3RX/WT1CCP0/PC6 (io), 15 C1+/U1CTS/U1TX/U4TX/WT0CCP1/PC5 (io), 16 C1-/U1RTS/U1RX/U4RX/WT0CCP0/PC4 (io), 17 U0RX/PA0 (io), 18 U0TX/PA1 (io), 19 SSI0CLK/PA2 (io), 20 SSI0FSS/PA3 (io), 21 SSI0RX/PA4 (io), 22 SSI0TX/PA5 (io), 23 I2C1SCL/PA6 (io), 24 I2C1SDA/PA7 (io), 25 VDDC (power), 26 VDD (power), 27 GND (power), 28 PF0/T0CCP0/SSI1RX/U1RTS/CAN0RX/C0O/NMI (io), 29 PF1/T0CCP1/SSI1TX/U1CTS/C1O/TRD1 (io), 30 PF2/T1CCP0/SSI1CLK/TRD0 (io), 31 PF3/T1CCP1/SSI1FSS/CAN0TX/TRCLK (io), 32 PG5/WT0CCP1/U2TX/I2C1SDA (io), 33 PG4/WT0CCP0/U2RX/I2C1SCL (io), 34 PG3/T5CCP1/I2C4SDA (io), 35 PG2/T5CCP0/I2C4SCL (io), 36 PG1/T4CCP1/I2C3SDA (io), 37 PG0/T4CCP0/I2C3SCL (io), 38 ~{{RST}} (in), 39 GND (power), 40 OSC0, 41 OSC1, 42 VDD (power), 43 U6RX/WT4CCP0/PD4 (io), 44 U6TX/WT4CCP1/PD5 (io), 45 U1RX/T2CCP0/PB0 (io), 46 U1TX/T2CCP1/PB1 (io), 47 I2C0SCL/T3CCP0/PB2 (io), 48 I2C0SDA/T3CCP1/PB3 (io), 49 TDO/SWO/T5CCP1/PC3 (io), 50 TDI/T5CCP0/PC2 (io), 51 TMS/SWDIO/T4CCP1/PC1 (io), 52 TCK/SWCLK/T4CCP0/PC0 (io), 53 U2RX/WT5CCP0/PD6 (io), 54 VDD (power), 55 GND (power), 56 VDDC (power), 57 AIN11/CAN0TX/SSI2FSS/T1CCP1/PB5 (io), 58 AIN10/CAN0RX/SSI2CLK/T1CCP0/PB4 (io), 59 PE4/AIN9/U5RX/I2C2SCL/CAN0RX (io), 60 PE5/AIN8/U5TX/I2C2SDA/CAN0TX (io), 61 AIN7/I2C3SCL/SSI1CLK/SSI3CLK/WT2CCP0/PD0 (io), 62 AIN6/I2C3SDA/SSI1FSS/SSI3FSS/WT2CCP1/PD1 (io), 63 AIN5/SSI1RX/SSI3RX/WT3CCP0/PD2 (io), 64 AIN4/SSI1TX/SSI3TX/WT3CCP1/PD3 (io)

## TM4C1230D5PM
designator *  value TM4C1230D5PM
ki_keywords: ARM Tiva Cortex M4 MCU; ki_description: Tiva ARM 32bit CortexM4 Microcotroller, 80MHz, 64kB Flash, 24kB SRAM, 2k EEPROM, LQFP64; ki_fp_filters: LQFP*10x10mm*P0.5mm*; Footprint: Package_QFP:LQFP-64_10x10mm_P0.5mm; Supplier: http://www.ti.com/lit/ds/symlink/tm4c1230d5pm.pdf
footprint LQFP-64_10x10mm_P0.5mm
pins: 1 I2C5SCL/SSI2RX/T0CCP0/PB6 (io), 2 VDDA (power), 3 GNDA (power), 4 I2C5SDA/SSI2TX/T0CCP1/PB7 (io), 5 PF4/T2CCP0 (io), 6 PE3/AIN0 (io), 7 PE2/AIN1 (io), 8 PE1/AIN2/U7TX (io), 9 PE0/AIN3/U7RX (io), 10 NMI/U2TX/WT5CCP1/PD7 (io), 11 VDD (power), 12 GND (power), 13 C0-/U3TX/WT1CCP1/PC7 (io), 14 C0+/U3RX/WT1CCP0/PC6 (io), 15 C1+/U1CTS/U1TX/U4TX/WT0CCP1/PC5 (io), 16 C1-/U1RTS/U1RX/U4RX/WT0CCP0/PC4 (io), 17 U0RX/PA0 (io), 18 U0TX/PA1 (io), 19 SSI0CLK/PA2 (io), 20 SSI0FSS/PA3 (io), 21 SSI0RX/PA4 (io), 22 SSI0TX/PA5 (io), 23 I2C1SCL/PA6 (io), 24 I2C1SDA/PA7 (io), 25 VDDC (power), 26 VDD (power), 27 GND (power), 28 PF0/T0CCP0/SSI1RX/U1RTS/CAN0RX/C0O/NMI (io), 29 PF1/T0CCP1/SSI1TX/U1CTS/C1O/TRD1 (io), 30 PF2/T1CCP0/SSI1CLK/TRD0 (io), 31 PF3/T1CCP1/SSI1FSS/CAN0TX/TRCLK (io), 32 PG5/WT0CCP1/U2TX/I2C1SDA (io), 33 PG4/WT0CCP0/U2RX/I2C1SCL (io), 34 PG3/T5CCP1/I2C4SDA (io), 35 PG2/T5CCP0/I2C4SCL (io), 36 PG1/T4CCP1/I2C3SDA (io), 37 PG0/T4CCP0/I2C3SCL (io), 38 ~{{RST}} (in), 39 GND (power), 40 OSC0, 41 OSC1, 42 VDD (power), 43 U6RX/WT4CCP0/PD4 (io), 44 U6TX/WT4CCP1/PD5 (io), 45 U1RX/T2CCP0/PB0 (io), 46 U1TX/T2CCP1/PB1 (io), 47 I2C0SCL/T3CCP0/PB2 (io), 48 I2C0SDA/T3CCP1/PB3 (io), 49 TDO/SWO/T5CCP1/PC3 (io), 50 TDI/T5CCP0/PC2 (io), 51 TMS/SWDIO/T4CCP1/PC1 (io), 52 TCK/SWCLK/T4CCP0/PC0 (io), 53 U2RX/WT5CCP0/PD6 (io), 54 VDD (power), 55 GND (power), 56 VDDC (power), 57 AIN11/CAN0TX/SSI2FSS/T1CCP1/PB5 (io), 58 AIN10/CAN0RX/SSI2CLK/T1CCP0/PB4 (io), 59 PE4/AIN9/U5RX/I2C2SCL/CAN0RX (io), 60 PE5/AIN8/U5TX/I2C2SDA/CAN0TX (io), 61 AIN7/I2C3SCL/SSI1CLK/SSI3CLK/WT2CCP0/PD0 (io), 62 AIN6/I2C3SDA/SSI1FSS/SSI3FSS/WT2CCP1/PD1 (io), 63 AIN5/SSI1RX/SSI3RX/WT3CCP0/PD2 (io), 64 AIN4/SSI1TX/SSI3TX/WT3CCP1/PD3 (io)

## TM4C1230E6PM
designator *  value TM4C1230E6PM
ki_keywords: ARM Tiva Cortex M4 MCU; ki_description: Tiva ARM 32bit CortexM4 Microcotroller, 80MHz, 128kB Flash, 32kB SRAM, 2k EEPROM, LQFP64; ki_fp_filters: LQFP*10x10mm*P0.5mm*; Footprint: Package_QFP:LQFP-64_10x10mm_P0.5mm; Supplier: http://www.ti.com/lit/ds/symlink/tm4c1230e6pm.pdf
footprint LQFP-64_10x10mm_P0.5mm
pins: 1 I2C5SCL/SSI2RX/T0CCP0/PB6 (io), 2 VDDA (power), 3 GNDA (power), 4 I2C5SDA/SSI2TX/T0CCP1/PB7 (io), 5 PF4/T2CCP0 (io), 6 PE3/AIN0 (io), 7 PE2/AIN1 (io), 8 PE1/AIN2/U7TX (io), 9 PE0/AIN3/U7RX (io), 10 NMI/U2TX/WT5CCP1/PD7 (io), 11 VDD (power), 12 GND (power), 13 C0-/U3TX/WT1CCP1/PC7 (io), 14 C0+/U3RX/WT1CCP0/PC6 (io), 15 C1+/U1CTS/U1TX/U4TX/WT0CCP1/PC5 (io), 16 C1-/U1RTS/U1RX/U4RX/WT0CCP0/PC4 (io), 17 U0RX/PA0 (io), 18 U0TX/PA1 (io), 19 SSI0CLK/PA2 (io), 20 SSI0FSS/PA3 (io), 21 SSI0RX/PA4 (io), 22 SSI0TX/PA5 (io), 23 I2C1SCL/PA6 (io), 24 I2C1SDA/PA7 (io), 25 VDDC (power), 26 VDD (power), 27 GND (power), 28 PF0/T0CCP0/SSI1RX/U1RTS/CAN0RX/C0O/NMI (io), 29 PF1/T0CCP1/SSI1TX/U1CTS/C1O/TRD1 (io), 30 PF2/T1CCP0/SSI1CLK/TRD0 (io), 31 PF3/T1CCP1/SSI1FSS/CAN0TX/TRCLK (io), 32 PG5/WT0CCP1/U2TX/I2C1SDA (io), 33 PG4/WT0CCP0/U2RX/I2C1SCL (io), 34 PG3/T5CCP1/I2C4SDA (io), 35 PG2/T5CCP0/I2C4SCL (io), 36 PG1/T4CCP1/I2C3SDA (io), 37 PG0/T4CCP0/I2C3SCL (io), 38 ~{{RST}} (in), 39 GND (power), 40 OSC0, 41 OSC1, 42 VDD (power), 43 U6RX/WT4CCP0/PD4 (io), 44 U6TX/WT4CCP1/PD5 (io), 45 U1RX/T2CCP0/PB0 (io), 46 U1TX/T2CCP1/PB1 (io), 47 I2C0SCL/T3CCP0/PB2 (io), 48 I2C0SDA/T3CCP1/PB3 (io), 49 TDO/SWO/T5CCP1/PC3 (io), 50 TDI/T5CCP0/PC2 (io), 51 TMS/SWDIO/T4CCP1/PC1 (io), 52 TCK/SWCLK/T4CCP0/PC0 (io), 53 U2RX/WT5CCP0/PD6 (io), 54 VDD (power), 55 GND (power), 56 VDDC (power), 57 AIN11/CAN0TX/SSI2FSS/T1CCP1/PB5 (io), 58 AIN10/CAN0RX/SSI2CLK/T1CCP0/PB4 (io), 59 PE4/AIN9/U5RX/I2C2SCL/CAN0RX (io), 60 PE5/AIN8/U5TX/I2C2SDA/CAN0TX (io), 61 AIN7/I2C3SCL/SSI1CLK/SSI3CLK/WT2CCP0/PD0 (io), 62 AIN6/I2C3SDA/SSI1FSS/SSI3FSS/WT2CCP1/PD1 (io), 63 AIN5/SSI1RX/SSI3RX/WT3CCP0/PD2 (io), 64 AIN4/SSI1TX/SSI3TX/WT3CCP1/PD3 (io)

## TM4C1230H6PM
designator *  value TM4C1230H6PM
ki_keywords: ARM Tiva Cortex M4 MCU; ki_description: Tiva ARM 32bit CortexM4 Microcotroller, 80MHz, 256kB Flash, 32kB SRAM, 2k EEPROM, LQFP64; ki_fp_filters: LQFP*10x10mm*P0.5mm*; Footprint: Package_QFP:LQFP-64_10x10mm_P0.5mm; Supplier: http://www.ti.com/lit/ds/symlink/tm4c1230h6pm.pdf
footprint LQFP-64_10x10mm_P0.5mm
pins: 1 I2C5SCL/SSI2RX/T0CCP0/PB6 (io), 2 VDDA (power), 3 GNDA (power), 4 I2C5SDA/SSI2TX/T0CCP1/PB7 (io), 5 PF4/T2CCP0 (io), 6 PE3/AIN0 (io), 7 PE2/AIN1 (io), 8 PE1/AIN2/U7TX (io), 9 PE0/AIN3/U7RX (io), 10 NMI/U2TX/WT5CCP1/PD7 (io), 11 VDD (power), 12 GND (power), 13 C0-/U3TX/WT1CCP1/PC7 (io), 14 C0+/U3RX/WT1CCP0/PC6 (io), 15 C1+/U1CTS/U1TX/U4TX/WT0CCP1/PC5 (io), 16 C1-/U1RTS/U1RX/U4RX/WT0CCP0/PC4 (io), 17 U0RX/PA0 (io), 18 U0TX/PA1 (io), 19 SSI0CLK/PA2 (io), 20 SSI0FSS/PA3 (io), 21 SSI0RX/PA4 (io), 22 SSI0TX/PA5 (io), 23 I2C1SCL/PA6 (io), 24 I2C1SDA/PA7 (io), 25 VDDC (power), 26 VDD (power), 27 GND (power), 28 PF0/T0CCP0/SSI1RX/U1RTS/CAN0RX/C0O/NMI (io), 29 PF1/T0CCP1/SSI1TX/U1CTS/C1O/TRD1 (io), 30 PF2/T1CCP0/SSI1CLK/TRD0 (io), 31 PF3/T1CCP1/SSI1FSS/CAN0TX/TRCLK (io), 32 PG5/WT0CCP1/U2TX/I2C1SDA (io), 33 PG4/WT0CCP0/U2RX/I2C1SCL (io), 34 PG3/T5CCP1/I2C4SDA (io), 35 PG2/T5CCP0/I2C4SCL (io), 36 PG1/T4CCP1/I2C3SDA (io), 37 PG0/T4CCP0/I2C3SCL (io), 38 ~{{RST}} (in), 39 GND (power), 40 OSC0, 41 OSC1, 42 VDD (power), 43 U6RX/WT4CCP0/PD4 (io), 44 U6TX/WT4CCP1/PD5 (io), 45 U1RX/T2CCP0/PB0 (io), 46 U1TX/T2CCP1/PB1 (io), 47 I2C0SCL/T3CCP0/PB2 (io), 48 I2C0SDA/T3CCP1/PB3 (io), 49 TDO/SWO/T5CCP1/PC3 (io), 50 TDI/T5CCP0/PC2 (io), 51 TMS/SWDIO/T4CCP1/PC1 (io), 52 TCK/SWCLK/T4CCP0/PC0 (io), 53 U2RX/WT5CCP0/PD6 (io), 54 VDD (power), 55 GND (power), 56 VDDC (power), 57 AIN11/CAN0TX/SSI2FSS/T1CCP1/PB5 (io), 58 AIN10/CAN0RX/SSI2CLK/T1CCP0/PB4 (io), 59 PE4/AIN9/U5RX/I2C2SCL/CAN0RX (io), 60 PE5/AIN8/U5TX/I2C2SDA/CAN0TX (io), 61 AIN7/I2C3SCL/SSI1CLK/SSI3CLK/WT2CCP0/PD0 (io), 62 AIN6/I2C3SDA/SSI1FSS/SSI3FSS/WT2CCP1/PD1 (io), 63 AIN5/SSI1RX/SSI3RX/WT3CCP0/PD2 (io), 64 AIN4/SSI1TX/SSI3TX/WT3CCP1/PD3 (io)

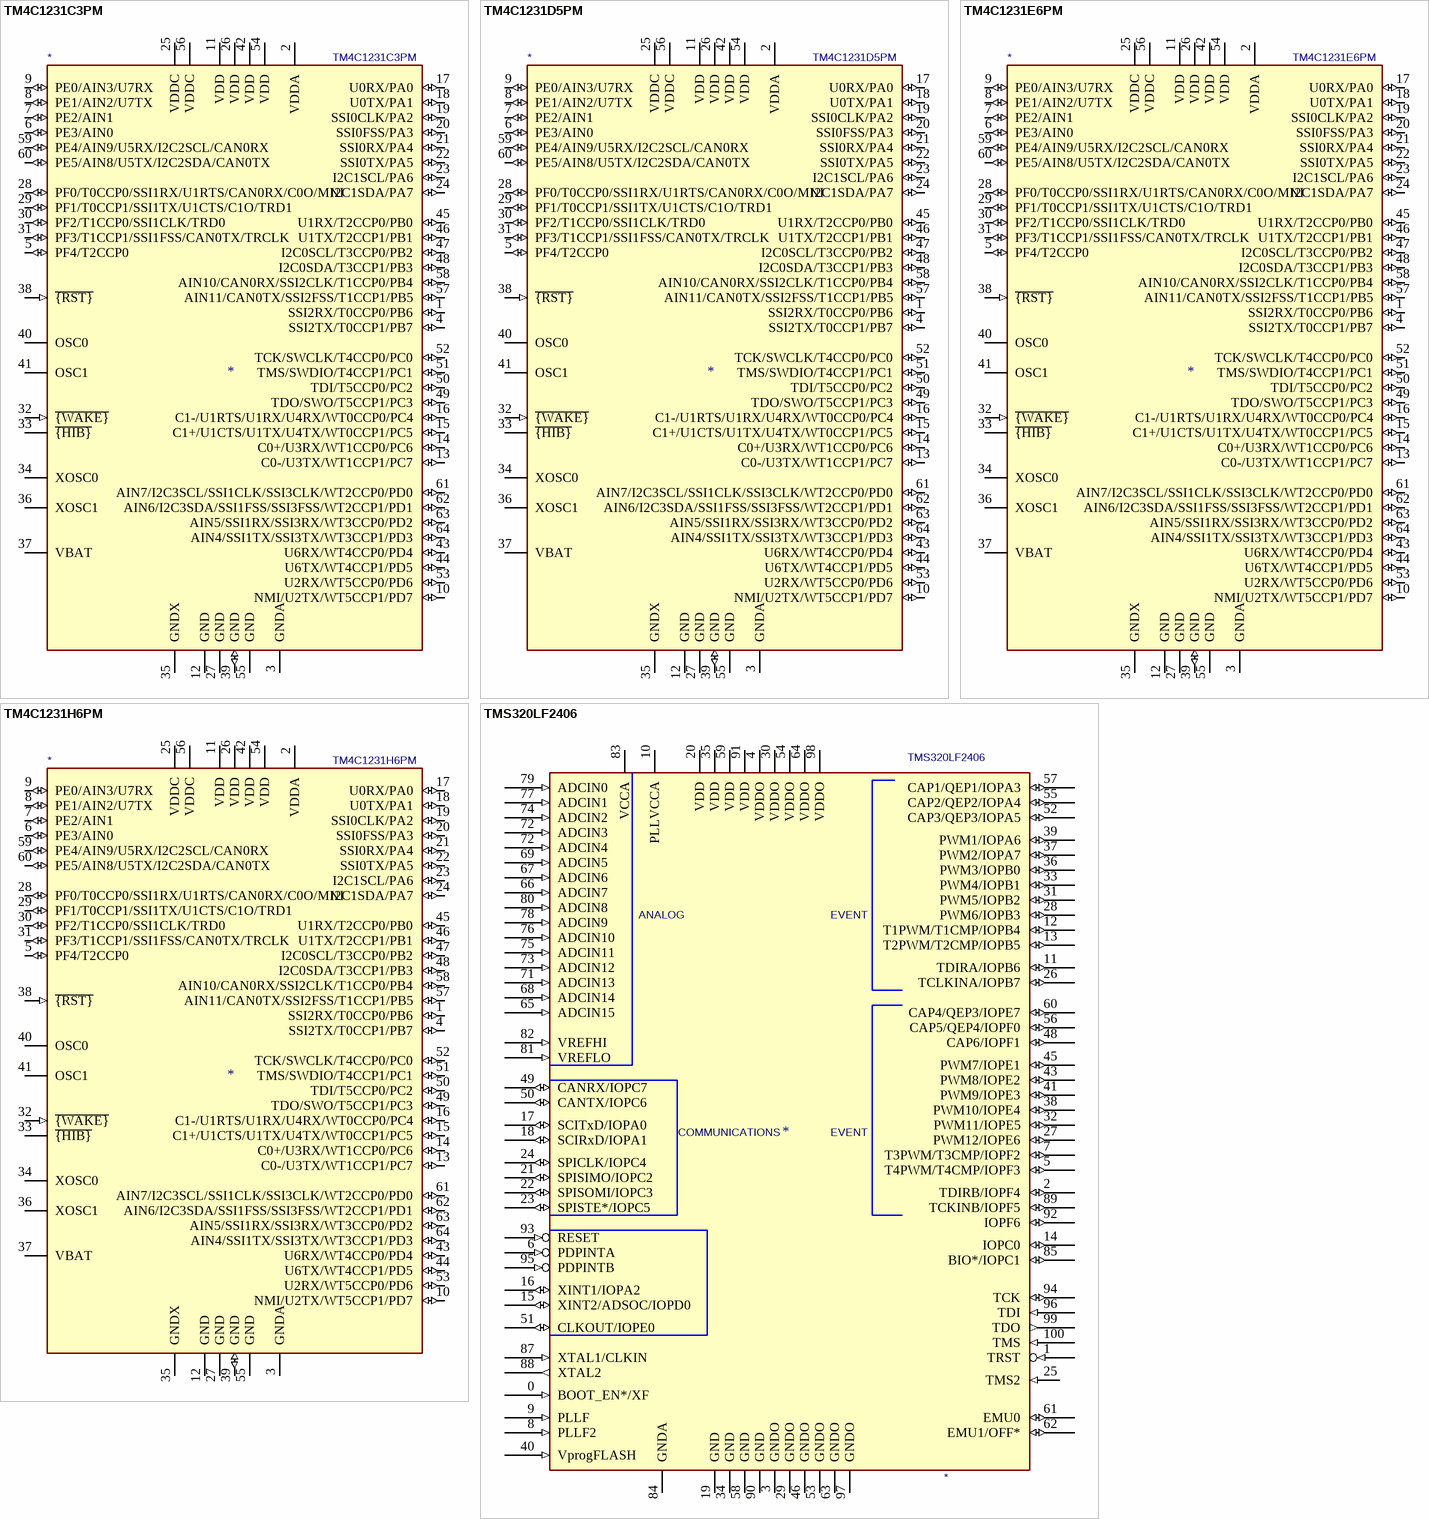
[diagram p3: symbols TM4C1231C3PM to TMS320LF2406]

## TM4C1231C3PM
designator *  value TM4C1231C3PM
ki_keywords: ARM Tiva Cortex M4 MCU; ki_description: Tiva ARM 32bit CortexM4 Microcotroller, 80MHz, 32kB Flash, 12kB SRAM, 2k EEPROM, LQFP64; ki_fp_filters: LQFP*10x10mm*P0.5*; Footprint: Package_QFP:LQFP-64_10x10mm_P0.5mm; Supplier: http://www.ti.com/lit/ds/symlink/tm4c1231c3pm.pdf
footprint LQFP-64_10x10mm_P0.5mm
pins: 1 SSI2RX/T0CCP0/PB6 (io), 2 VDDA (power), 3 GNDA (power), 4 SSI2TX/T0CCP1/PB7 (io), 5 PF4/T2CCP0 (io), 6 PE3/AIN0 (io), 7 PE2/AIN1 (io), 8 PE1/AIN2/U7TX (io), 9 PE0/AIN3/U7RX (io), 10 NMI/U2TX/WT5CCP1/PD7 (io), 11 VDD (power), 12 GND (power), 13 C0-/U3TX/WT1CCP1/PC7 (io), 14 C0+/U3RX/WT1CCP0/PC6 (io), 15 C1+/U1CTS/U1TX/U4TX/WT0CCP1/PC5 (io), 16 C1-/U1RTS/U1RX/U4RX/WT0CCP0/PC4 (io), 17 U0RX/PA0 (io), 18 U0TX/PA1 (io), 19 SSI0CLK/PA2 (io), 20 SSI0FSS/PA3 (io), 21 SSI0RX/PA4 (io), 22 SSI0TX/PA5 (io), 23 I2C1SCL/PA6 (io), 24 I2C1SDA/PA7 (io), 25 VDDC (power), 26 VDD (power), 27 GND (power), 28 PF0/T0CCP0/SSI1RX/U1RTS/CAN0RX/C0O/MNI (io), 29 PF1/T0CCP1/SSI1TX/U1CTS/C1O/TRD1 (io), 30 PF2/T1CCP0/SSI1CLK/TRD0 (io), 31 PF3/T1CCP1/SSI1FSS/CAN0TX/TRCLK (io), 32 ~{{WAKE}} (in), 33 ~{{HIB}} (oc), 34 XOSC0, 35 GNDX (power), 36 XOSC1, 37 VBAT, 38 ~{{RST}} (in), 39 GND (io), 40 OSC0, 41 OSC1, 42 VDD (power), 43 U6RX/WT4CCP0/PD4 (io), 44 U6TX/WT4CCP1/PD5 (io), 45 U1RX/T2CCP0/PB0 (io), 46 U1TX/T2CCP1/PB1 (io), 47 I2C0SCL/T3CCP0/PB2 (io), 48 I2C0SDA/T3CCP1/PB3 (io), 49 TDO/SWO/T5CCP1/PC3 (io), 50 TDI/T5CCP0/PC2 (io), 51 TMS/SWDIO/T4CCP1/PC1 (io), 52 TCK/SWCLK/T4CCP0/PC0 (io), 53 U2RX/WT5CCP0/PD6 (io), 54 VDD (power), 55 GND (power), 56 VDDC (power), 57 AIN11/CAN0TX/SSI2FSS/T1CCP1/PB5 (io), 58 AIN10/CAN0RX/SSI2CLK/T1CCP0/PB4 (io), 59 PE4/AIN9/U5RX/I2C2SCL/CAN0RX (io), 60 PE5/AIN8/U5TX/I2C2SDA/CAN0TX (io), 61 AIN7/I2C3SCL/SSI1CLK/SSI3CLK/WT2CCP0/PD0 (io), 62 AIN6/I2C3SDA/SSI1FSS/SSI3FSS/WT2CCP1/PD1 (io), 63 AIN5/SSI1RX/SSI3RX/WT3CCP0/PD2 (io), 64 AIN4/SSI1TX/SSI3TX/WT3CCP1/PD3 (io)

## TM4C1231D5PM
designator *  value TM4C1231D5PM
ki_keywords: ARM Tiva Cortex M4 MCU; ki_description: Tiva ARM 32bit CortexM4 Microcotroller, 80MHz, 64kB Flash, 24kB SRAM, 2k EEPROM, LQFP64; ki_fp_filters: LQFP*10x10mm*P0.5*; Footprint: Package_QFP:LQFP-64_10x10mm_P0.5mm; Supplier: http://www.ti.com/lit/ds/symlink/tm4c1231d5pm.pdf
footprint LQFP-64_10x10mm_P0.5mm
pins: 1 SSI2RX/T0CCP0/PB6 (io), 2 VDDA (power), 3 GNDA (power), 4 SSI2TX/T0CCP1/PB7 (io), 5 PF4/T2CCP0 (io), 6 PE3/AIN0 (io), 7 PE2/AIN1 (io), 8 PE1/AIN2/U7TX (io), 9 PE0/AIN3/U7RX (io), 10 NMI/U2TX/WT5CCP1/PD7 (io), 11 VDD (power), 12 GND (power), 13 C0-/U3TX/WT1CCP1/PC7 (io), 14 C0+/U3RX/WT1CCP0/PC6 (io), 15 C1+/U1CTS/U1TX/U4TX/WT0CCP1/PC5 (io), 16 C1-/U1RTS/U1RX/U4RX/WT0CCP0/PC4 (io), 17 U0RX/PA0 (io), 18 U0TX/PA1 (io), 19 SSI0CLK/PA2 (io), 20 SSI0FSS/PA3 (io), 21 SSI0RX/PA4 (io), 22 SSI0TX/PA5 (io), 23 I2C1SCL/PA6 (io), 24 I2C1SDA/PA7 (io), 25 VDDC (power), 26 VDD (power), 27 GND (power), 28 PF0/T0CCP0/SSI1RX/U1RTS/CAN0RX/C0O/MNI (io), 29 PF1/T0CCP1/SSI1TX/U1CTS/C1O/TRD1 (io), 30 PF2/T1CCP0/SSI1CLK/TRD0 (io), 31 PF3/T1CCP1/SSI1FSS/CAN0TX/TRCLK (io), 32 ~{{WAKE}} (in), 33 ~{{HIB}} (oc), 34 XOSC0, 35 GNDX (power), 36 XOSC1, 37 VBAT, 38 ~{{RST}} (in), 39 GND (io), 40 OSC0, 41 OSC1, 42 VDD (power), 43 U6RX/WT4CCP0/PD4 (io), 44 U6TX/WT4CCP1/PD5 (io), 45 U1RX/T2CCP0/PB0 (io), 46 U1TX/T2CCP1/PB1 (io), 47 I2C0SCL/T3CCP0/PB2 (io), 48 I2C0SDA/T3CCP1/PB3 (io), 49 TDO/SWO/T5CCP1/PC3 (io), 50 TDI/T5CCP0/PC2 (io), 51 TMS/SWDIO/T4CCP1/PC1 (io), 52 TCK/SWCLK/T4CCP0/PC0 (io), 53 U2RX/WT5CCP0/PD6 (io), 54 VDD (power), 55 GND (power), 56 VDDC (power), 57 AIN11/CAN0TX/SSI2FSS/T1CCP1/PB5 (io), 58 AIN10/CAN0RX/SSI2CLK/T1CCP0/PB4 (io), 59 PE4/AIN9/U5RX/I2C2SCL/CAN0RX (io), 60 PE5/AIN8/U5TX/I2C2SDA/CAN0TX (io), 61 AIN7/I2C3SCL/SSI1CLK/SSI3CLK/WT2CCP0/PD0 (io), 62 AIN6/I2C3SDA/SSI1FSS/SSI3FSS/WT2CCP1/PD1 (io), 63 AIN5/SSI1RX/SSI3RX/WT3CCP0/PD2 (io), 64 AIN4/SSI1TX/SSI3TX/WT3CCP1/PD3 (io)

## TM4C1231E6PM
designator *  value TM4C1231E6PM
ki_keywords: ARM Tiva Cortex M4 MCU; ki_description: Tiva ARM 32bit CortexM4 Microcotroller, 80MHz, 128kB Flash, 32kB SRAM, 2k EEPROM, LQFP64; ki_fp_filters: LQFP*10x10mm*P0.5*; Footprint: Package_QFP:LQFP-64_10x10mm_P0.5mm; Supplier: http://www.ti.com/lit/ds/symlink/tm4c1231e6pm.pdf
footprint LQFP-64_10x10mm_P0.5mm
pins: 1 SSI2RX/T0CCP0/PB6 (io), 2 VDDA (power), 3 GNDA (power), 4 SSI2TX/T0CCP1/PB7 (io), 5 PF4/T2CCP0 (io), 6 PE3/AIN0 (io), 7 PE2/AIN1 (io), 8 PE1/AIN2/U7TX (io), 9 PE0/AIN3/U7RX (io), 10 NMI/U2TX/WT5CCP1/PD7 (io), 11 VDD (power), 12 GND (power), 13 C0-/U3TX/WT1CCP1/PC7 (io), 14 C0+/U3RX/WT1CCP0/PC6 (io), 15 C1+/U1CTS/U1TX/U4TX/WT0CCP1/PC5 (io), 16 C1-/U1RTS/U1RX/U4RX/WT0CCP0/PC4 (io), 17 U0RX/PA0 (io), 18 U0TX/PA1 (io), 19 SSI0CLK/PA2 (io), 20 SSI0FSS/PA3 (io), 21 SSI0RX/PA4 (io), 22 SSI0TX/PA5 (io), 23 I2C1SCL/PA6 (io), 24 I2C1SDA/PA7 (io), 25 VDDC (power), 26 VDD (power), 27 GND (power), 28 PF0/T0CCP0/SSI1RX/U1RTS/CAN0RX/C0O/MNI (io), 29 PF1/T0CCP1/SSI1TX/U1CTS/C1O/TRD1 (io), 30 PF2/T1CCP0/SSI1CLK/TRD0 (io), 31 PF3/T1CCP1/SSI1FSS/CAN0TX/TRCLK (io), 32 ~{{WAKE}} (in), 33 ~{{HIB}} (oc), 34 XOSC0, 35 GNDX (power), 36 XOSC1, 37 VBAT, 38 ~{{RST}} (in), 39 GND (io), 40 OSC0, 41 OSC1, 42 VDD (power), 43 U6RX/WT4CCP0/PD4 (io), 44 U6TX/WT4CCP1/PD5 (io), 45 U1RX/T2CCP0/PB0 (io), 46 U1TX/T2CCP1/PB1 (io), 47 I2C0SCL/T3CCP0/PB2 (io), 48 I2C0SDA/T3CCP1/PB3 (io), 49 TDO/SWO/T5CCP1/PC3 (io), 50 TDI/T5CCP0/PC2 (io), 51 TMS/SWDIO/T4CCP1/PC1 (io), 52 TCK/SWCLK/T4CCP0/PC0 (io), 53 U2RX/WT5CCP0/PD6 (io), 54 VDD (power), 55 GND (power), 56 VDDC (power), 57 AIN11/CAN0TX/SSI2FSS/T1CCP1/PB5 (io), 58 AIN10/CAN0RX/SSI2CLK/T1CCP0/PB4 (io), 59 PE4/AIN9/U5RX/I2C2SCL/CAN0RX (io), 60 PE5/AIN8/U5TX/I2C2SDA/CAN0TX (io), 61 AIN7/I2C3SCL/SSI1CLK/SSI3CLK/WT2CCP0/PD0 (io), 62 AIN6/I2C3SDA/SSI1FSS/SSI3FSS/WT2CCP1/PD1 (io), 63 AIN5/SSI1RX/SSI3RX/WT3CCP0/PD2 (io), 64 AIN4/SSI1TX/SSI3TX/WT3CCP1/PD3 (io)

## TM4C1231H6PM
designator *  value TM4C1231H6PM
ki_keywords: ARM Tiva Cortex M4 MCU; ki_description: Tiva ARM 32bit CortexM4 Microcotroller, 80MHz, 256kB Flash, 32kB SRAM, 2k EEPROM, LQFP64; ki_fp_filters: LQFP*10x10mm*P0.5*; Footprint: Package_QFP:LQFP-64_10x10mm_P0.5mm; Supplier: http://www.ti.com/lit/ds/symlink/tm4c1231h6pm.pdf
footprint LQFP-64_10x10mm_P0.5mm
pins: 1 SSI2RX/T0CCP0/PB6 (io), 2 VDDA (power), 3 GNDA (power), 4 SSI2TX/T0CCP1/PB7 (io), 5 PF4/T2CCP0 (io), 6 PE3/AIN0 (io), 7 PE2/AIN1 (io), 8 PE1/AIN2/U7TX (io), 9 PE0/AIN3/U7RX (io), 10 NMI/U2TX/WT5CCP1/PD7 (io), 11 VDD (power), 12 GND (power), 13 C0-/U3TX/WT1CCP1/PC7 (io), 14 C0+/U3RX/WT1CCP0/PC6 (io), 15 C1+/U1CTS/U1TX/U4TX/WT0CCP1/PC5 (io), 16 C1-/U1RTS/U1RX/U4RX/WT0CCP0/PC4 (io), 17 U0RX/PA0 (io), 18 U0TX/PA1 (io), 19 SSI0CLK/PA2 (io), 20 SSI0FSS/PA3 (io), 21 SSI0RX/PA4 (io), 22 SSI0TX/PA5 (io), 23 I2C1SCL/PA6 (io), 24 I2C1SDA/PA7 (io), 25 VDDC (power), 26 VDD (power), 27 GND (power), 28 PF0/T0CCP0/SSI1RX/U1RTS/CAN0RX/C0O/MNI (io), 29 PF1/T0CCP1/SSI1TX/U1CTS/C1O/TRD1 (io), 30 PF2/T1CCP0/SSI1CLK/TRD0 (io), 31 PF3/T1CCP1/SSI1FSS/CAN0TX/TRCLK (io), 32 ~{{WAKE}} (in), 33 ~{{HIB}} (oc), 34 XOSC0, 35 GNDX (power), 36 XOSC1, 37 VBAT, 38 ~{{RST}} (in), 39 GND (io), 40 OSC0, 41 OSC1, 42 VDD (power), 43 U6RX/WT4CCP0/PD4 (io), 44 U6TX/WT4CCP1/PD5 (io), 45 U1RX/T2CCP0/PB0 (io), 46 U1TX/T2CCP1/PB1 (io), 47 I2C0SCL/T3CCP0/PB2 (io), 48 I2C0SDA/T3CCP1/PB3 (io), 49 TDO/SWO/T5CCP1/PC3 (io), 50 TDI/T5CCP0/PC2 (io), 51 TMS/SWDIO/T4CCP1/PC1 (io), 52 TCK/SWCLK/T4CCP0/PC0 (io), 53 U2RX/WT5CCP0/PD6 (io), 54 VDD (power), 55 GND (power), 56 VDDC (power), 57 AIN11/CAN0TX/SSI2FSS/T1CCP1/PB5 (io), 58 AIN10/CAN0RX/SSI2CLK/T1CCP0/PB4 (io), 59 PE4/AIN9/U5RX/I2C2SCL/CAN0RX (io), 60 PE5/AIN8/U5TX/I2C2SDA/CAN0TX (io), 61 AIN7/I2C3SCL/SSI1CLK/SSI3CLK/WT2CCP0/PD0 (io), 62 AIN6/I2C3SDA/SSI1FSS/SSI3FSS/WT2CCP1/PD1 (io), 63 AIN5/SSI1RX/SSI3RX/WT3CCP0/PD2 (io), 64 AIN4/SSI1TX/SSI3TX/WT3CCP1/PD3 (io)

## TMS320LF2406
designator *  value TMS320LF2406
pins: 0 BOOT_EN*/XF (in), 1 TRST (in), 2 TDIRB/IOPF4 (io), 3 GNDO (power), 4 VDDO (power), 5 T4PWM/T4CMP/IOPF3 (io), 6 PDPINTA (in), 7 T3PWM/T3CMP/IOPF2 (io), 8 PLLF2 (in), 9 PLLF (in), 10 PLLVCCA (power), 11 TDIRA/IOPB6 (io), 12 T1PWM/T1CMP/IOPB4 (io), 13 T2PWM/T2CMP/IOPB5 (io), 14 IOPC0 (io), 15 XINT2/ADSOC/IOPD0 (io), 16 XINT1/IOPA2 (io), 17 SCITxD/IOPA0 (io), 18 SCIRxD/IOPA1 (io), 19 GND (power), 20 VDD (power), 21 SPISIMO/IOPC2 (io), 22 SPISOMI/IOPC3 (io), 23 SPISTE*/IOPC5 (io), 24 SPICLK/IOPC4 (io), 25 TMS2 (in), 26 TCLKINA/IOPB7 (io), 27 PWM12/IOPE6 (io), 28 PWM6/IOPB3 (io), 29 GNDO (power), 30 VDDO (power), 31 PWM5/IOPB2 (io), 32 PWM11/IOPE5 (io), 33 PWM4/IOPB1 (io), 34 GND (power), 35 VDD (power), 36 PWM3/IOPB0 (io), 37 PWM2/IOPA7 (io), 38 PWM10/IOPE4 (io), 39 PWM1/IOPA6 (io), 40 VprogFLASH (in), 41 PWM9/IOPE3 (io), 43 PWM8/IOPE2 (io), 45 PWM7/IOPE1 (io), 46 GNDO (power), 48 CAP6/IOPF1 (io), 49 CANRX/IOPC7 (io), 50 CANTX/IOPC6 (io), 51 CLKOUT/IOPE0 (io), 52 CAP3/QEP3/IOPA5 (io), 53 GNDO (power), 54 VDDO (power), 55 CAP2/QEP2/IOPA4 (io), 56 CAP5/QEP4/IOPF0 (io), 57 CAP1/QEP1/IOPA3 (io), 58 GND (power), 59 VDD (power), 60 CAP4/QEP3/IOPE7 (io), 61 EMU0 (io), 62 EMU1/OFF* (io), 63 GNDO (power), 64 VDDO (power), 65 ADCIN15 (in), 66 ADCIN7 (in), 67 ADCIN6 (in), 68 ADCIN14 (in), 69 ADCIN5 (in), 71 ADCIN13 (in), 72 ADCIN3 (in), 72 ADCIN4 (in), 73 ADCIN12 (in), 74 ADCIN2 (in), 75 ADCIN11 (in), 76 ADCIN10 (in), 77 ADCIN1 (in), 78 ADCIN9 (in), 79 ADCIN0 (in), 80 ADCIN8 (in), 81 VREFLO (in), 82 VREFHI (in), 83 VCCA (power), 84 GNDA (power), 85 BIO*/IOPC1 (io), 87 XTAL1/CLKIN (in), 88 XTAL2 (out), 89 TCKINB/IOPF5 (io), 90 GND (power), 91 VDD (power), 92 IOPF6 (io), 93 RESET (in), 94 TCK (io), 95 PDPINTB (in), 96 TDI (in), 97 GNDO (power), 98 VDDO (power), 99 TDO (out), 100 TMS (in)
text: ANALOG; EVENT; COMMUNICATIONS

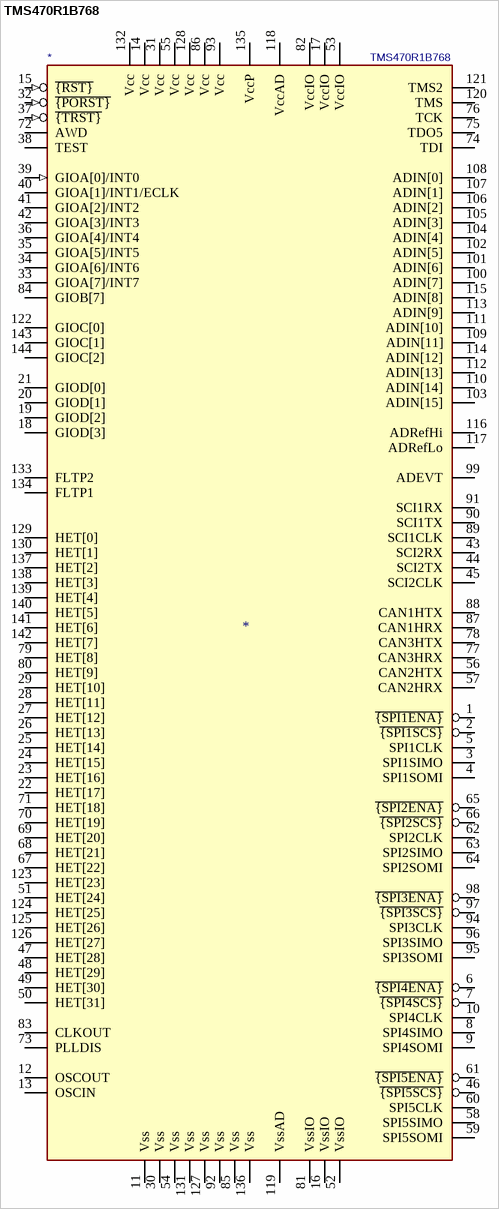
[diagram p4: symbol TMS470R1B768]

## TMS470R1B768
designator *  value TMS470R1B768
ki_keywords: ARM 7TDM uC TMS470; ki_description: ARM7TDM Microcontroller, 768KB Flash, 48KB RAM, PQFP-144; ki_fp_filters: PQFP-144*; Supplier: http://www.ti.com/lit/ds/symlink/tms470r1b768.pdf
pins: 1 ~{{SPI1ENA}}, 2 ~{{SPI1SCS}}, 3 SPI1SIMO, 4 SPI1SOMI, 5 SPI1CLK, 6 ~{{SPI4ENA}}, 7 ~{{SPI4SCS}}, 8 SPI4SIMO, 9 SPI4SOMI, 10 SPI4CLK, 11 Vss (power), 12 OSCOUT, 13 OSCIN, 14 Vcc (power), 15 ~{{RST}} (in), 16 VssIO (power), 17 VccIO (power), 18 GIOD[3], 19 GIOD[2], 20 GIOD[1], 21 GIOD[0], 22 HET[17], 23 HET[16], 24 HET[15], 25 HET[14], 26 HET[13], 27 HET[12], 28 HET[11], 29 HET[10], 30 Vss, 31 Vcc, 32 ~{{PORST}} (in), 33 GIOA[7]/INT7, 34 GIOA[6]/INT6, 35 GIOA[5]/INT5, 36 GIOA[4]/INT4, 37 ~{{TRST}} (in), 38 TEST, 39 GIOA[0]/INT0 (in), 40 GIOA[1]/INT1/ECLK, 41 GIOA[2]/INT2, 42 GIOA[3]/INT3, 43 SCI2RX, 44 SCI2TX, 45 SCI2CLK, 46 ~{{SPI5SCS}}, 47 HET[28], 48 HET[29], 49 HET[30], 50 HET[31], 51 HET[24], 52 VssIO (power), 53 VccIO (power), 54 Vss (power), 55 Vcc, 56 CAN2HTX, 57 CAN2HRX, 58 SPI5SIMO, 59 SPI5SOMI, 60 SPI5CLK, 61 ~{{SPI5ENA}}, 62 SPI2CLK, 63 SPI2SIMO, 64 SPI2SOMI, 65 ~{{SPI2ENA}}, 66 ~{{SPI2SCS}}, 67 HET[22], 68 HET[21], 69 HET[20], 70 HET[19], 71 HET[18], 72 AWD, 73 PLLDIS, 74 TDI, 75 TDO5, 76 TCK, 77 CAN3HRX, 78 CAN3HTX, 79 HET[8], 80 HET[9], 81 VssIO, 82 VccIO, 83 CLKOUT, 84 GIOB[7], 85 Vss, 86 Vcc, 87 CAN1HRX, 88 CAN1HTX, 89 SCI1CLK, 90 SCI1TX, 91 SCI1RX, 92 Vss, 93 Vcc, 94 SPI3CLK, 95 SPI3SOMI, 96 SPI3SIMO, 97 ~{{SPI3SCS}}, 98 ~{{SPI3ENA}}, 99 ADEVT, 100 ADIN[7], 101 ADIN[6], 102 ADIN[5], 103 ADIN[15], 104 ADIN[4], 105 ADIN[3], 106 ADIN[2], 107 ADIN[1], 108 ADIN[0], 109 ADIN[11], 110 ADIN[14], 111 ADIN[10], 112 ADIN[13], 113 ADIN[9], 114 ADIN[12], 115 ADIN[8], 116 ADRefHi, 117 ADRefLo, 118 VccAD, 119 VssAD, 120 TMS, 121 TMS2, 122 GIOC[0], 123 HET[23], 124 HET[25], 125 HET[26], 126 HET[27], 127 Vss, 128 Vcc, 129 HET[0], 130 HET[1], 131 Vss, 132 Vcc, 133 FLTP2, 134 FLTP1, 135 VccP, 136 Vss, 137 HET[2], 138 HET[3], 139 HET[4], 140 HET[5], 141 HET[6], 142 HET[7], 143 GIOC[1], 144 GIOC[2]